# Altium schematic symbol library Schlib_V1.SchLib: 119 symbols (part 1 of 2)
Pins are listed as number, name and electrical type; pins without a type are passive.

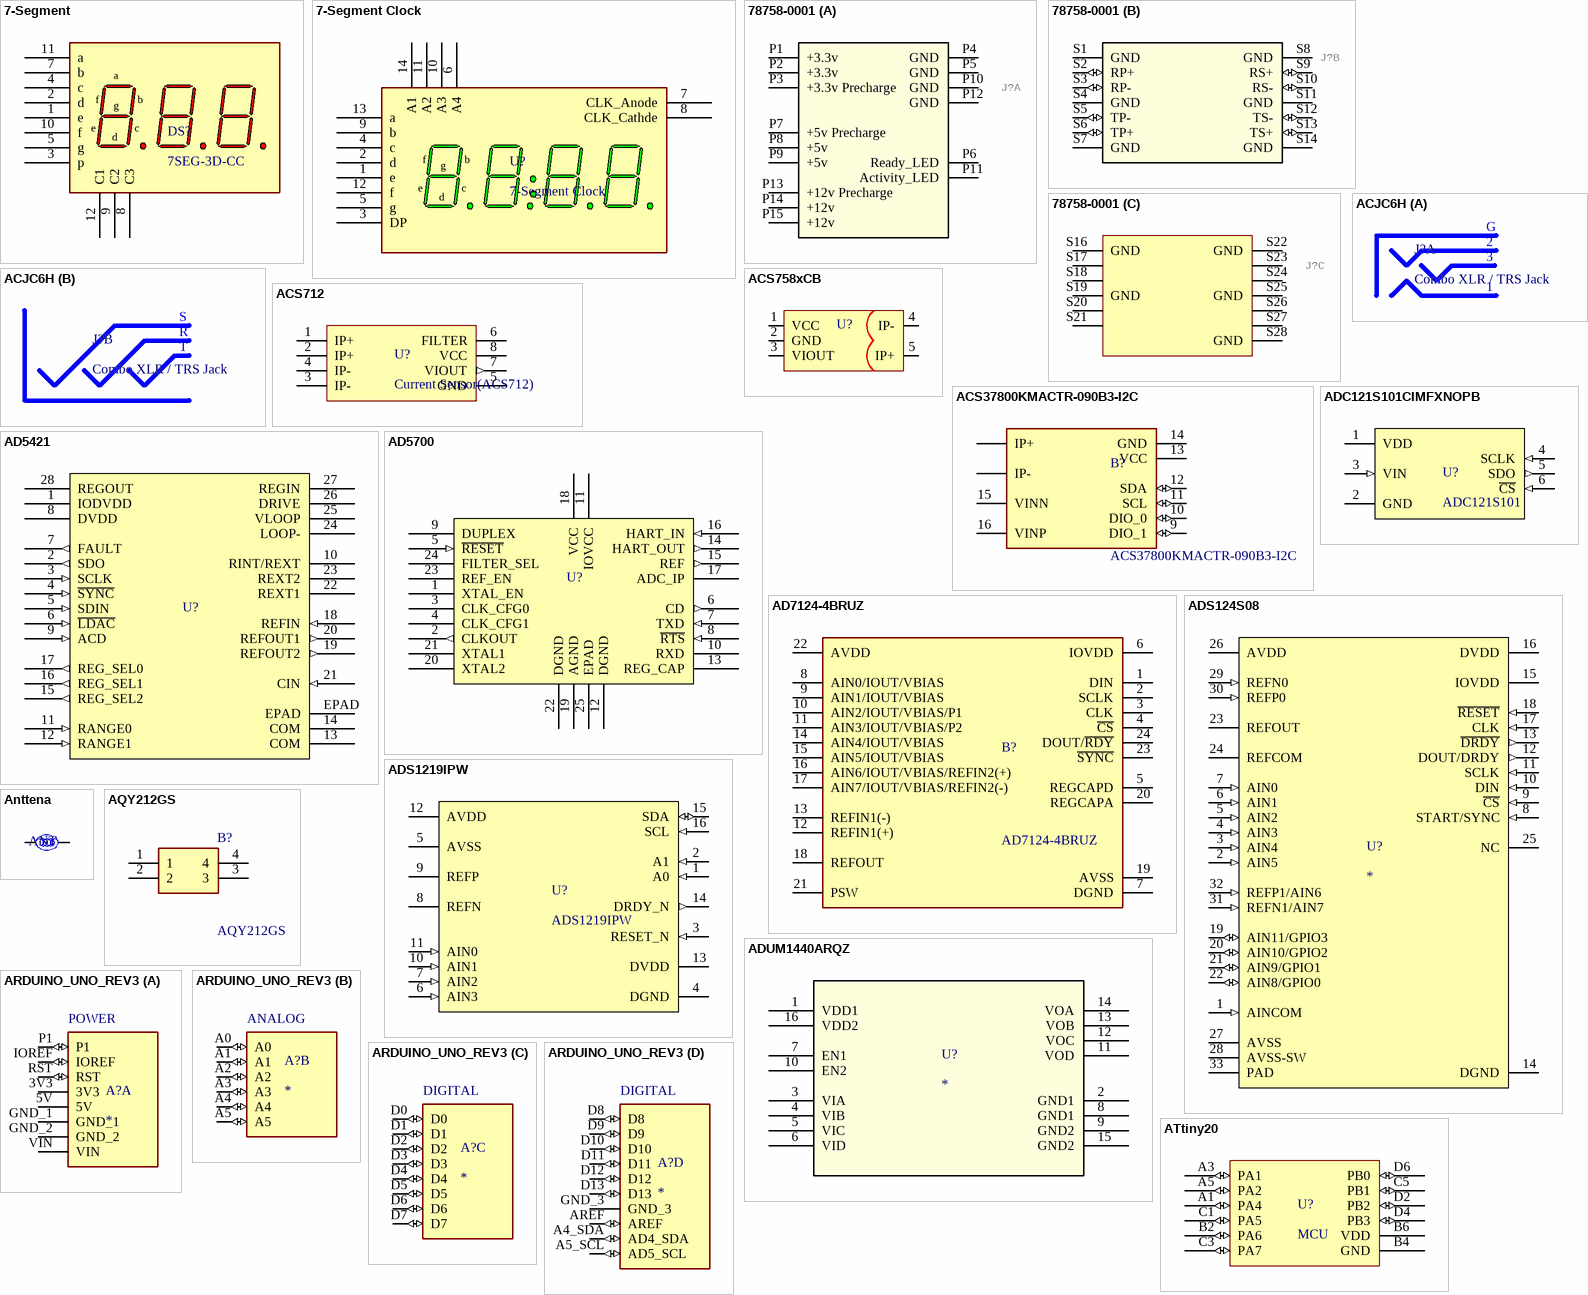
[diagram p0: symbols 7-Segment to ATtiny20]

## 7-Segment
designator DS?, comment 7SEG-3D-CC
7 Segment 3 Digit Common Cathode
footprint 7SEGX3_12_3016 (7SEG 3DIGIT 5631 1.3", 12pin Pitch: 2.54mm, 16X30.1mm)
pins: 1 e, 2 d, 3 p, 4 c, 5 g, 7 b, 8 C3, 9 C2, 10 f, 11 a, 12 C1

## 7-Segment Clock
designator U?
footprint SSCLOCK
pins: 1 e, 2 d, 3 DP, 4 c, 5 g, 6 A4, 7 CLK_Anode, 8 CLK_Cathde, 9 b, 10 A3, 11 A2, 12 f, 13 a, 14 A1

## 78758-0001
designator J?
I/O Connectors U.2 Plg 68Ckt VrtSMT w/Frt Sldr Tab w/Cap; Manufacturer_Name: Molex; GateName_1: G$1; SymbolName_1: 78758-0001; LibraryName: 78758-0001; DeviceSetName: 78758-0001; Package: 78758-0001; Mouser_Part_Number: 538-78758-0001; Mouser_Price-Stock: https://www.mouser.co.uk/ProductDetail/Molex/78758-0001?qs=wOSGPAwRNAFEK7d2ROR5rw%3D%3D; Manufacturer_Part_Number: 78758-0001; Height: mm
footprint 78758-0001
part A pins: P1 +3.3v, P2 +3.3v, P3 +3.3v Precharge, P4 GND, P5 GND, P6 Ready_LED, P7 +5v Precharge, P8 +5v, P9 +5v, P10 GND, P11 Activity_LED, P12 GND, P13 +12v Precharge, P14 +12v, P15 +12v
part B pins: S1 GND (power), S2 RP+ (io), S3 RP- (io), S4 GND (power), S5 TP- (io), S6 TP+ (io), S7 GND (power), S8 GND (power), S9 RS+ (io), S10 RS- (io), S11 GND (power), S12 TS- (io), S13 TS+ (io), S14 GND (power)
part C pins: S16 GND, S17, S18, S19 GND, S20, S21, S22 GND, S23, S24, S25 GND, S26, S27, S28 GND

## ACJC6H
designator J?, comment Combo XLR / TRS Jack
Standard or low profile / high density shell design / Two connectors in the one housing / Industry standard PCB footprint layout on standard C type. / Vertical or Horizontal PCB mounting / Bulk packed / Positive latch lock system (XLR)
footprint 55010428
part A pins: 1, 2, 3, G
part B pins: R, S, T

## ACS712
designator U?, comment Current Sensor(ACS712)
footprint SOIC8
pins: 1 IP+ (power), 2 IP+ (power), 3 IP- (power), 4 IP- (power), 5 GND (power), 6 FILTER, 7 VIOUT (out), 8 VCC (power)

## ACS758xCB
designator U?  (value not drawn)
Thermally Enhanced, Fully Integrated, Hall-Effect-Based / Linear Current Sensor IC with 100 µΩ Current Conductor
footprint ACCACS758
pins: 1 VCC (power), 2 GND (power), 3 VIOUT, 4 IP-, 5 IP+

## ACS37800KMACTR-090B3-I2C
designator B?
Isolated, Digital Output, Power Monitoring IC With Zero-Crossing Detection, Overcurrent And Overvoltage Flagging; Manufacturer_Name: Allegro Microsystems; Geometry.Height: 2.65mm; Manufacturer_Part_Number: ACS37800KMACTR-090B3-I2C; Mouser Part Number: 250-KMACTR-090B3-I2C; Mouser Price/Stock: https://www.mouser.co.uk/ProductDetail/Allegro-MicroSystems/ACS37800KMACTR-090B3-I2C?qs=e8oIoAS2J1R9LBXpQ1%252BpjQ%3D%3D; Arrow Part Number: ACS37800KMACTR-090B3-I2C; Arrow Price/Stock: https://www.arrow.com/en/products/acs37800kmactr-090b3-i2c/allegro-microsystems?region=nac; Datasheet Link: https://www.allegromicro.com/-/media/files/datasheets/acs37800-datasheet.ashx?sc_lang=en&hash=1C7B0351F268B7F35F9A980074E4AA64
footprint SOIC16
pins: 1 IP+, 2 IP+, 3 IP+, 4 IP+, 5 IP-, 6 IP-, 7 IP-, 8 IP-, 9 DIO_1 (io), 10 DIO_0 (io), 11 SCL (io), 12 SDA (io), 13 VCC (power), 14 GND (power), 15 VINN, 16 VINP

## AD5421
designator U?
16-Bit, Serial Input, Loop-Powered,4 mA to 20 mA DAC; Mfr_Name: Analog Devices Inc; RefDes: RefDes; Type: Type
footprint TSSOP28
pins: 1 IODVDD (power), 2 SDO (out), 3 SCLK (in), 4 ~{SYNC} (in), 5 SDIN (in), 6 ~{LDAC} (in), 7 FAULT (out), 8 DVDD (power), 9 ACD (in), 10 RINT/REXT, 11 RANGE0 (in), 12 RANGE1 (in), 13 COM, 14 COM, 15 REG_SEL2 (out), 16 REG_SEL1 (out), 17 REG_SEL0 (out), 18 REFIN (in), 19 REFOUT2 (out), 20 REFOUT1 (out), 21 CIN (in), 22 REXT1, 23 REXT2, 24 LOOP- (power), 25 VLOOP (power), 26 DRIVE (power), 27 REGIN (power), 28 REGOUT (power), EPAD

## AD5700
designator U?
Low Power HART Modem; Mfr_Name: Analog Devices Inc; RefDes: RefDes; Type: Type
footprint LFCSP-24 (Footprint not found)
pins: 1 XTAL_EN, 2 CLKOUT (out), 3 CLK_CFG0, 4 CLK_CFG1, 5 ~{RESET} (in), 6 CD (out), 7 TXD (in), 8 ~{RTS} (in), 9 DUPLEX, 10 RXD, 11 IOVCC (power), 12 DGND (power), 13 REG_CAP, 14 HART_OUT (out), 15 REF (out), 16 HART_IN (in), 17 ADC_IP, 18 VCC (power), 19 AGND (power), 20 XTAL2, 21 XTAL1, 22 DGND (power), 23 REF_EN, 24 FILTER_SEL, 25 EPAD

## AD7124-4BRUZ
designator B?
4-Channel, Low Noise, Low Power, 24-Bit, Sigma-Delta ADC with PGA and Reference; Manufacturer_Name: Analog Devices; Geometry.Height: 1.2mm; Mouser Part Number: 584-AD7124-4BRUZ; Mouser Price/Stock: https://www.mouser.co.uk/ProductDetail/Analog-Devices/AD7124-4BRUZ?qs=8Sj0zgMuDMVqCrsELALuFg%3D%3D; Manufacturer_Part_Number: AD7124-4BRUZ; Datasheet Link: http://www.analog.com/media/en/technical-documentation/data-sheets/AD7124-4.pdf
footprint TSSOP24
pins: 1 DIN, 2 SCLK, 3 CLK, 4 ~{CS}, 5 REGCAPD, 6 IOVDD, 7 DGND, 8 AIN0/IOUT/VBIAS, 9 AIN1/IOUT/VBIAS, 10 AIN2/IOUT/VBIAS/P1, 11 AIN3/IOUT/VBIAS/P2, 12 REFIN1(+), 13 REFIN1(-), 14 AIN4/IOUT/VBIAS, 15 AIN5/IOUT/VBIAS, 16 AIN6/IOUT/VBIAS/REFIN2(+), 17 AIN7/IOUT/VBIAS/REFIN2(-), 18 REFOUT, 19 AVSS, 20 REGCAPA, 21 PSW, 22 AVDD, 23 ~{SYNC}, 24 DOUT/~{RDY}

## ADC121S101CIMFXNOPB
designator U?, comment ADC121S101
ADC121S101x Single-Channel, 0.5 to 1-Msps, 12-Bit Analog-to-Digital Converter; Mfr_Name: Texas Instruments; TYPE: ADC
footprint SOT23-6
pins: 1 VDD (power), 2 GND (power), 3 VIN (in), 4 SCLK (in), 5 SDO (out), 6 ~{CS} (in)

## ADS124S08
designator U?
ADS124S0x Low-Power, Low-Noise, Highly Integrated, 6- and 12-Channel, / 4-kSPS, 24-Bit, Delta-Sigma ADC with PGA and Voltage Reference; Mfr_Name: Texas Instruments; RefDes: >Name; Type: >Value
footprint VQFN-32 (VQFN - 1 mm max height / PLASTIC QUAD FLATPACK-NO LEAD)
pins: 1 AINCOM (in), 2 AIN5 (in), 3 AIN4 (in), 4 AIN3 (in), 5 AIN2 (in), 6 AIN1 (in), 7 AIN0 (in), 8 START/SYNC (in), 9 ~{CS} (in), 10 DIN (in), 11 SCLK (in), 12 DOUT/DRDY (out), 13 ~{DRDY} (out), 14 DGND (power), 15 IOVDD (power), 16 DVDD (power), 17 CLK (in), 18 ~{RESET} (in), 19 AIN11/GPIO3 (io), 20 AIN10/GPIO2 (io), 21 AIN9/GPIO1 (io), 22 AIN8/GPIO0 (io), 23 REFOUT (power), 24 REFCOM (power), 25 NC, 26 AVDD (power), 27 AVSS (power), 28 AVSS-SW (power), 29 REFN0 (in), 30 REFP0 (in), 31 REFN1/AIN7 (in), 32 REFP1/AIN6 (in), 33 PAD (power)

## ADS1219IPW
designator U?
No Description Available; Mfr_Name: Texas Instruments; Type: DEV; RefDes: RefDes; Copyright: Copyright (C) 2023 Ultra Librarian. All rights reserved.; Manufacturer_Part_Number: ADS1219IPW
footprint TSSOP16
pins: 1 A0 (in), 2 A1 (in), 3 RESET_N (in), 4 DGND (power), 5 AVSS (power), 6 AIN3 (in), 7 AIN2 (in), 8 REFN (power), 9 REFP (power), 10 AIN1 (in), 11 AIN0 (in), 12 AVDD (power), 13 DVDD (power), 14 DRDY_N (out), 15 SDA (io), 16 SCL (in)

## ADUM1440ARQZ
designator U?
No Description Available; Mfr_Name: Analog Devices Inc; RefDes: RefDes; Type: Type
footprint RQ_16_ADI-M
pins: 1 VDD1, 2 GND1, 3 VIA, 4 VIB, 5 VIC, 6 VID, 7 EN1, 8 GND1, 9 GND2, 10 EN2, 11 VOD, 12 VOC, 13 VOB, 14 VOA, 15 GND2, 16 VDD2

## Anttena
designator ANT, comment 13.56MHz  (value not drawn)
footprint Antenna
pins: 1, 2

## AQY212GS
designator B?
Relay,SSR,Gen Purp,1A,60AC/DC,4 Pin Panasonic 1 A SPNO Solid State Relay, AC/DC, Surface Mount PhotoMOS, 60 V Maximum Load; Geometry.Height: 2.75mm; Mouser Part Number: 769-AQY212GS; Mouser Price/Stock: https://www.mouser.co.uk/ProductDetail/Panasonic-Industrial-Devices/AQY212GS?qs=mTeSeKeuVA6rDVFz7Vu6cQ%3D%3D; Manufacturer_Name: Panasonic; Manufacturer_Part_Number: AQY212GS; Datasheet Link: https://componentsearchengine.com/Datasheets/2/AQY212GS.pdf
footprint SOP4
pins: 1, 2, 3, 4

## ARDUINO_UNO_REV3
designator A?
Microcontroller board based on the ATmega328P.; MF: Arduino; MP: ARDUINO UNO REV3; SnapEDA_Link: https://www.snapeda.com/parts/ARDUINO%20UNO%20REV3/Arduino/view-part/?ref=snap; Package: Non-Standard Arduino; Value: *; Check_prices: https://www.snapeda.com/parts/ARDUINO%20UNO%20REV3/Arduino/view-part/?ref=eda
footprint ARDUINO_UNO
footprint ARDUINO_UNO_Flip
part A pins: 3V3 (power), 5V (power), GND_1 (power), GND_2 (power), IOREF (io), P1 (io), RST (io), VIN (power)
part B pins: A0 (io), A1 (io), A2 (io), A3 (io), A4 (io), A5 (io)
part C pins: D0 (io), D1 (io), D2 (io), D3 (io), D4 (io), D5 (io), D6 (io), D7 (io)
part D pins: A4_SDA AD4_SDA (io), A5_SCL AD5_SCL (io), AREF (io), D8 (io), D9 (io), D10 (io), D11 (io), D12 (io), D13 (io), GND_3 (power)
part A text: POWER
part B text: ANALOG
part C text: DIGITAL
part D text: DIGITAL

## ATtiny20
designator U?, comment MCU
8-bit AVR Microcontroller / with 2K Bytes In-System Programmable Flash
footprint wlcsp12 (12-ball 1.555*1.403mm Body, 0.538 mm think, 0.40 mm pitch (4*6 Stanggered Array) WLCSP)
pins: A1 PA4 (io), A3 PA1 (io), A5 PA2 (io), B2 PA6 (io), B4 GND (power), B6 VDD (power), C1 PA5 (io), C3 PA7 (io), C5 PB1 (io), D2 PB2 (io), D4 PB3 (io), D6 PB0 (io)

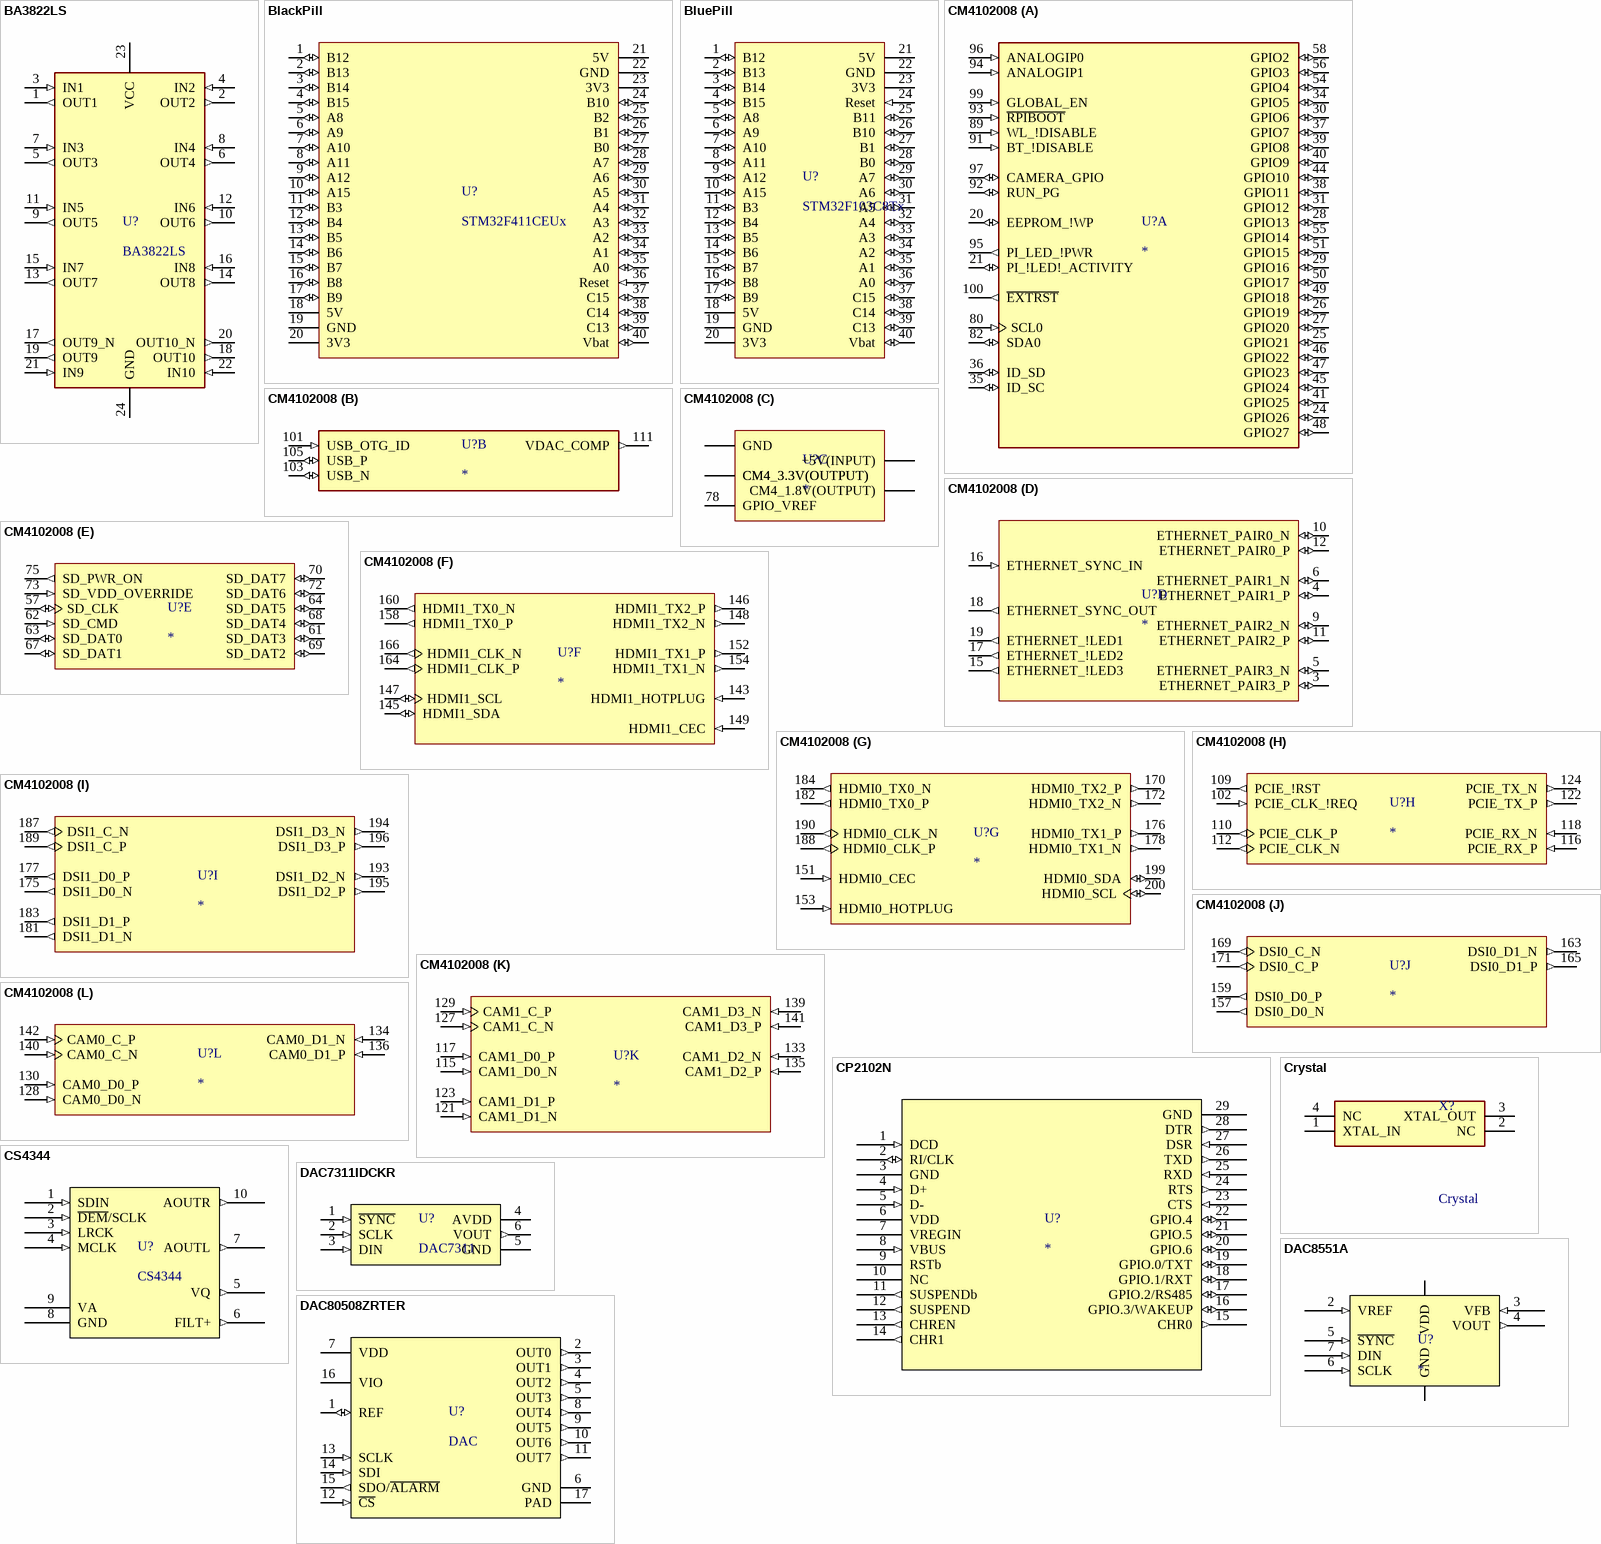
[diagram p1: symbols BA3822LS to DAC80508ZRTER]

## BA3822LS
designator U?
5-channel stereo graphic equalizer
footprint SOIC-24
pins: 1 OUT1 (out), 2 OUT2 (out), 3 IN1 (in), 4 IN2 (in), 5 OUT3 (out), 6 OUT4 (out), 7 IN3 (in), 8 IN4 (in), 9 OUT5 (out), 10 OUT6 (out), 11 IN5 (in), 12 IN6 (in), 13 OUT7 (out), 14 OUT8 (out), 15 IN7 (in), 16 IN8 (in), 17 OUT9_N (out), 18 OUT10 (out), 19 OUT9 (out), 20 OUT10_N (out), 21 IN9 (in), 22 IN10 (in), 23 VCC (power), 24 GND (power)

## BlackPill
designator U?, comment STM32F411CEUx
footprint BlackPill
pins: 1 B12 (io), 2 B13 (io), 3 B14 (io), 4 B15 (io), 5 A8 (io), 6 A9 (io), 7 A10 (io), 8 A11 (io), 9 A12 (io), 10 A15 (io), 11 B3 (io), 12 B4 (io), 13 B5 (io), 14 B6 (io), 15 B7 (io), 16 B8 (io), 17 B9 (io), 18 5V (power), 19 GND (power), 20 3V3 (power), 21 5V (power), 22 GND (power), 23 3V3 (power), 24 B10 (io), 25 B2 (io), 26 B1 (io), 27 B0 (io), 28 A7 (io), 29 A6 (io), 30 A5 (io), 31 A4 (io), 32 A3 (io), 33 A2 (io), 34 A1 (io), 35 A0 (io), 36 Reset (in), 37 C15 (io), 38 C14 (io), 39 C13 (io), 40 Vbat (io)

## BluePill
designator U?, comment STM32F103C8Tx
footprint Pill
pins: 1 B12 (io), 2 B13 (io), 3 B14 (io), 4 B15 (io), 5 A8 (io), 6 A9 (io), 7 A10 (io), 8 A11 (io), 9 A12 (io), 10 A15 (io), 11 B3 (io), 12 B4 (io), 13 B5 (io), 14 B6 (io), 15 B7 (io), 16 B8 (io), 17 B9 (io), 18 5V (power), 19 GND (power), 20 3V3 (power), 21 5V (power), 22 GND (power), 23 3V3 (power), 24 Reset (in), 25 B11 (io), 26 B10 (io), 27 B1 (io), 28 B0 (io), 29 A7 (io), 30 A6 (io), 31 A5 (io), 32 A4 (io), 33 A3 (io), 34 A2 (io), 35 A1 (io), 36 A0 (io), 37 C15 (io), 38 C14 (io), 39 C13 (io), 40 Vbat (io)

## CM4102008
designator U?
RPI MODULE 4, 2GB RAM, 8GB EMMC, WIFI; Silicon Manufacturer:Broadcom; Silicon Family Name:BCM2xxx; Core Architecture:ARM; Core Sub-Architecture:Cortex-A72; Silicon Core Number:BCM2711; Product Range:Compute Module 4 RoHS Compliant: Yes; MF: Raspberry Pi; MP: CM4102008; Value: *; Check_prices: https://www.snapeda.com/parts/CM4102008/Raspberry%20Pi/view-part/7386978/?ref=eda; Price: None; Package: None; Availability: Not in stock; SnapEDA_Link: https://www.snapeda.com/parts/CM4102008/Raspberry%20Pi/view-part/7386978/?ref=snap
footprint MODULE_CM4102008
part A pins: 20 EEPROM_!WP (io), 21 PI_!LED!_ACTIVITY (io), 24 GPIO26 (io), 25 GPIO21 (io), 26 GPIO19 (io), 27 GPIO20 (io), 28 GPIO13 (io), 29 GPIO16 (io), 30 GPIO6 (io), 31 GPIO12 (io), 34 GPIO5 (io), 35 ID_SC (io), 36 ID_SD (io), 37 GPIO7 (io), 38 GPIO11 (io), 39 GPIO8 (io), 40 GPIO9 (io), 41 GPIO25 (io), 44 GPIO10 (io), 45 GPIO24 (io), 46 GPIO22 (io), 47 GPIO23 (io), 48 GPIO27 (io), 49 GPIO18 (io), 50 GPIO17 (io), 51 GPIO15 (io), 54 GPIO4 (io), 55 GPIO14 (io), 56 GPIO3 (io), 58 GPIO2 (io), 80 SCL0 (in), 82 SDA0 (io), 89 WL_!DISABLE (in), 91 BT_!DISABLE (in), 92 RUN_PG (io), 93 ~{RPIBOOT} (in), 94 ANALOGIP1 (in), 95 PI_LED_!PWR (out), 96 ANALOGIP0 (in), 97 CAMERA_GPIO (io), 99 GLOBAL_EN (in), 100 ~{EXTRST} (out)
part B pins: 101 USB_OTG_ID (in), 103 USB_N (io), 105 USB_P (io), 111 VDAC_COMP (out)
part C pins: 1 GND (power), 2 GND (power), 7 GND (power), 8 GND (power), 13 GND (power), 14 GND (power), 22 GND (power), 23 GND (power), 32 GND (power), 33 GND (power), 42 GND (power), 43 GND (power), 52 GND (power), 53 GND (power), 59 GND (power), 60 GND (power), 65 GND (power), 66 GND (power), 71 GND (power), 74 GND (power), 77 +5V(INPUT) (power), 78 GPIO_VREF (power), 79 +5V(INPUT) (power), 81 +5V(INPUT) (power), 83 +5V(INPUT) (power), 84 CM4_3.3V(OUTPUT) (power), 85 +5V(INPUT) (power), 86 CM4_3.3V(OUTPUT) (power), 87 +5V(INPUT) (power), 88 CM4_1.8V(OUTPUT) (power), 90   (power), 98 GND (power), 107 GND (power), 108 GND (power), 113 GND (power), 114 GND (power), 119 GND (power), 120 GND (power), 125 GND (power), 126 GND (power), 131 GND (power), 132 GND (power), 137 GND (power), 138 GND (power), 144 GND (power), 150 GND (power), 155 GND (power), 156 GND (power), 161 GND (power), 162 GND (power), 167 GND (power), 168 GND (power), 173 GND (power), 174 GND (power), 179 GND (power), 180 GND (power), 185 GND (power), 186 GND (power), 191 GND (power), 192 GND (power), 197 GND (power), 198 GND (power)
part D pins: 3 ETHERNET_PAIR3_P (io), 4 ETHERNET_PAIR1_P (io), 5 ETHERNET_PAIR3_N (io), 6 ETHERNET_PAIR1_N (io), 9 ETHERNET_PAIR2_N (io), 10 ETHERNET_PAIR0_N (io), 11 ETHERNET_PAIR2_P (io), 12 ETHERNET_PAIR0_P (io), 15 ETHERNET_!LED3 (out), 16 ETHERNET_SYNC_IN (in), 17 ETHERNET_!LED2 (out), 18 ETHERNET_SYNC_OUT (out), 19 ETHERNET_!LED1 (out)
part E pins: 57 SD_CLK (io), 61 SD_DAT3 (io), 62 SD_CMD (in), 63 SD_DAT0 (io), 64 SD_DAT5 (io), 67 SD_DAT1 (io), 68 SD_DAT4 (io), 69 SD_DAT2 (io), 70 SD_DAT7 (io), 72 SD_DAT6 (io), 73 SD_VDD_OVERRIDE (in), 75 SD_PWR_ON (out)
part F pins: 143 HDMI1_HOTPLUG (in), 145 HDMI1_SDA (io), 146 HDMI1_TX2_P (out), 147 HDMI1_SCL (io), 148 HDMI1_TX2_N (out), 149 HDMI1_CEC (in), 152 HDMI1_TX1_P (out), 154 HDMI1_TX1_N (out), 158 HDMI1_TX0_P (out), 160 HDMI1_TX0_N (out), 164 HDMI1_CLK_P (out), 166 HDMI1_CLK_N (out)
part G pins: 151 HDMI0_CEC (in), 153 HDMI0_HOTPLUG (in), 170 HDMI0_TX2_P (out), 172 HDMI0_TX2_N (out), 176 HDMI0_TX1_P (out), 178 HDMI0_TX1_N (out), 182 HDMI0_TX0_P (out), 184 HDMI0_TX0_N (out), 188 HDMI0_CLK_P (out), 190 HDMI0_CLK_N (out), 199 HDMI0_SDA (io), 200 HDMI0_SCL (io)
part H pins: 102 PCIE_CLK_!REQ (in), 109 PCIE_!RST (out), 110 PCIE_CLK_P (out), 112 PCIE_CLK_N (out), 116 PCIE_RX_P (in), 118 PCIE_RX_N (in), 122 PCIE_TX_P (out), 124 PCIE_TX_N (out)
part I pins: 175 DSI1_D0_N (out), 177 DSI1_D0_P (out), 181 DSI1_D1_N (out), 183 DSI1_D1_P (out), 187 DSI1_C_N (out), 189 DSI1_C_P (out), 193 DSI1_D2_N (out), 194 DSI1_D3_N (out), 195 DSI1_D2_P (out), 196 DSI1_D3_P (out)
part J pins: 157 DSI0_D0_N (out), 159 DSI0_D0_P (out), 163 DSI0_D1_N (out), 165 DSI0_D1_P (out), 169 DSI0_C_N (out), 171 DSI0_C_P (out)
part K pins: 115 CAM1_D0_N (in), 117 CAM1_D0_P (in), 121 CAM1_D1_N (in), 123 CAM1_D1_P (in), 127 CAM1_C_N (in), 129 CAM1_C_P (in), 133 CAM1_D2_N (in), 135 CAM1_D2_P (in), 139 CAM1_D3_N (in), 141 CAM1_D3_P (in)
part L pins: 128 CAM0_D0_N (in), 130 CAM0_D0_P (in), 134 CAM0_D1_N (in), 136 CAM0_D1_P (in), 140 CAM0_C_N (in), 142 CAM0_C_P (in)

## CP2102N
designator U?
No Description Available; Mfr_Name: Silicon Labs; RefDes: RefDes; Type: Type
footprint QFN28_5X5 (Footprint not found)
pins: 1 DCD (in), 2 RI/CLK (io), 3 GND (power), 4 D+ (in), 5 D- (in), 6 VDD (power), 7 VREGIN (power), 8 VBUS (in), 9 RSTb, 10 NC, 11 SUSPENDb (out), 12 SUSPEND (out), 13 CHREN (out), 14 CHR1 (out), 15 CHR0 (out), 16 GPIO.3/WAKEUP (io), 17 GPIO.2/RS485 (io), 18 GPIO.1/RXT (io), 19 GPIO.0/TXT (io), 20 GPIO.6 (io), 21 GPIO.5 (io), 22 GPIO.4 (io), 23 CTS (in), 24 RTS (out), 25 RXD (in), 26 TXD (out), 27 DSR (in), 28 DTR (out), 29 GND (power)

## Crystal
designator X?
Crystal 40MHz +/-45ppm (Tol) +/-40ppm (Stability) 10pF 100Ohm 4-Pin SMD T/R; Manufacturer_Name: Murata Electronics; Manufacturer_Part_Number: XRCGB40M000F4M02R0; Geometry.Height: 0.7mm; Mouser Part Number: 81-XRCGB40M000F4M02R; Mouser Price/Stock: https://www.mouser.co.uk/ProductDetail/Murata-Electronics/XRCGB40M000F4M02R0?qs=rrS6PyfT74fAOGFgWWmGFg%3D%3D; Datasheet Link: https://www.murata.com/products/productdata/8801080279070/SPEC-XRCGB40M000F4M02R0.pdf?1517925609000
footprint HCR2016
pins: 1 XTAL_IN, 2 NC, 3 XTAL_OUT, 4 NC

## CS4344
designator U?
10-Pin, 24-Bit, 192 kHz Stereo D/A Converter; Mfr_Name: Cirrus Logic; RefDes: RefDes; Type: Type
footprint TSSOP-10
pins: 1 SDIN (in), 2 ~{DEM}/SCLK (in), 3 LRCK (in), 4 MCLK (in), 5 VQ (out), 6 FILT+ (out), 7 AOUTL (out), 8 GND (power), 9 VA (power), 10 AOUTR (out)

## DAC7311IDCKR
designator U?, comment DAC7311
DACx311 2-V to 5.5-V, 80-μA, 8-Bit, 10-Bit, and 12-Bit, Low-Power, Single-Channel, / Digital-to-Analog Converters in SC70 Package; Mfr_Name: Texas Instruments; RefDes: RefDes; Type: Type
footprint SC70
pins: 1 ~{SYNC} (in), 2 SCLK (in), 3 DIN (in), 4 AVDD (power), 5 GND (power), 6 VOUT (out)

## DAC8551A
designator U?
DAC8551 16-Bit, Ultralow-Glitch, Voltage-Output Digital‑to‑Analog Converter; Mfr_Name: Texas Instruments; RefDes: RefDes; Type: Type
footprint VSSOP-8
pins: 1 VDD (power), 2 VREF (in), 3 VFB (in), 4 VOUT (out), 5 ~{SYNC} (in), 6 SCLK (in), 7 DIN (in), 8 GND (power)

## DAC80508ZRTER
designator U?, comment DAC
DACx0508 Octal, 16-, 14-, 12-Bit, SPI, Voltage Output DAC with Internal Reference; Mfr_Name: Texas Instruments; TYPE: TYPE; RefDes: RefDes
footprint WQFN-16 (WQFN - 0.8 mm max height / PLASTIC QUAD FLATPACK - NO LEAD)
pins: 1 REF (io), 2 OUT0 (out), 3 OUT1 (out), 4 OUT2 (out), 5 OUT3 (out), 6 GND (power), 7 VDD (power), 8 OUT4 (out), 9 OUT5 (out), 10 OUT6 (out), 11 OUT7 (out), 12 ~{CS} (in), 13 SCLK (in), 14 SDI (in), 15 SDO/~{ALARM} (out), 16 VIO (power), 17 PAD (power)

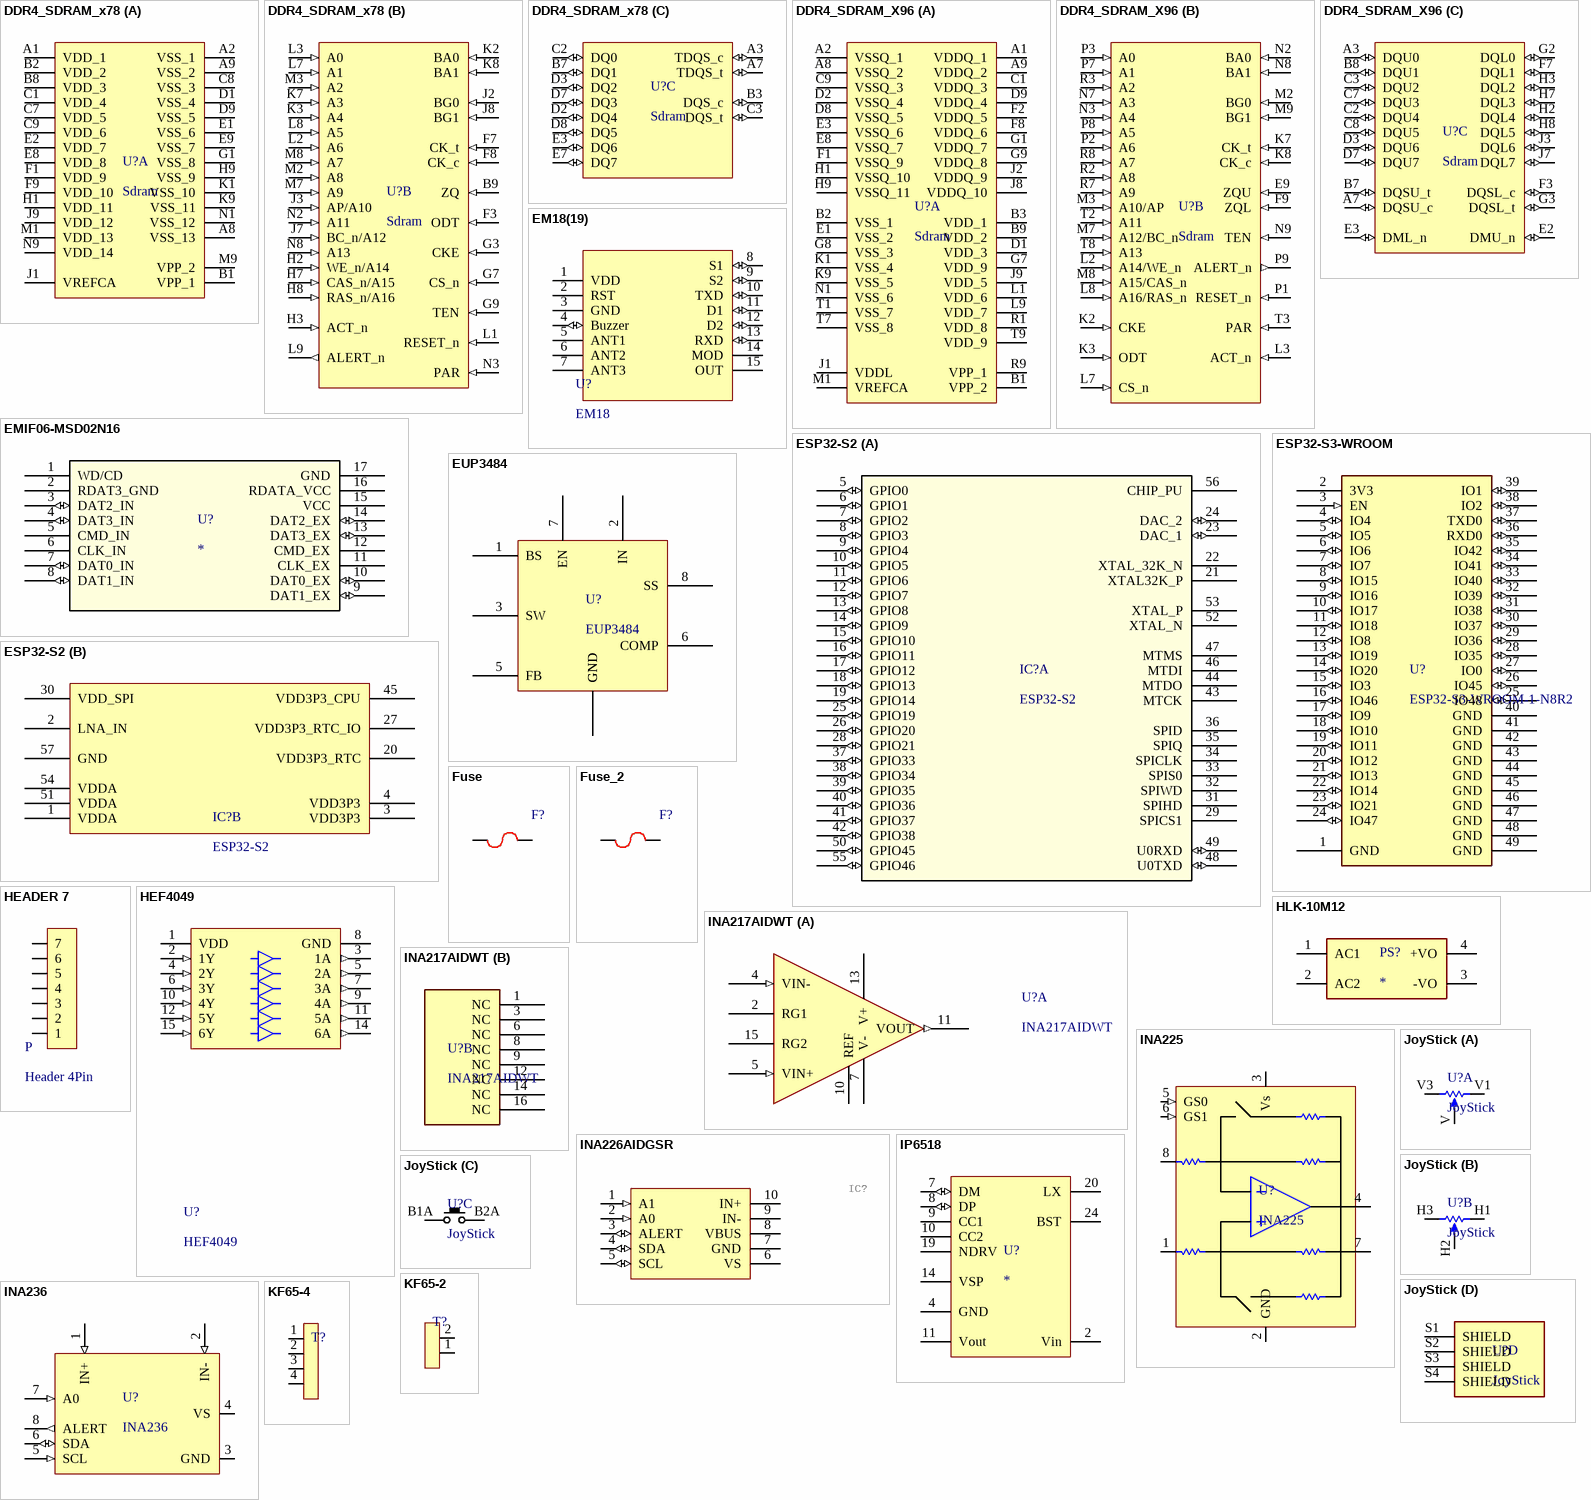
[diagram p2: symbols DDR4_SDRAM_x78 to KF65-4]

## DDR4_SDRAM_x78
designator U?, comment Sdram
8Gb DDR4 SDRAM / Lead-Free&Halogen-Free / (RoHS Compliant)
footprint FBGA78 (BGA, 78-Leads, Body 7.50x11.00mmx1.10mm, Pitch 0.80mm)
part A pins: A1 VDD_1 (power), A2 VSS_1 (power), A8 VSS_13 (power), A9 VSS_2 (power), B1 VPP_1 (power), B2 VDD_2 (power), B8 VDD_3 (power), C1 VDD_4 (power), C7 VDD_5 (power), C8 VSS_3 (power), C9 VDD_6 (power), D1 VSS_4 (power), D9 VSS_5 (power), E1 VSS_6 (power), E2 VDD_7 (power), E8 VDD_8 (power), E9 VSS_7 (power), F1 VDD_9 (power), F9 VDD_10 (power), G1 VSS_8 (power), H1 VDD_11 (power), H9 VSS_9 (power), J1 VREFCA (power), J9 VDD_12 (power), K1 VSS_10 (power), K9 VSS_11 (power), M1 VDD_13 (power), M9 VPP_2 (power), N1 VSS_12 (power), N9 VDD_14 (power)
part B pins: B9 ZQ (in), F3 ODT (in), F7 CK_t (in), F8 CK_c (in), G3 CKE (in), G7 CS_n (in), G9 TEN (in), H2 WE_n/A14 (in), H3 ACT_n (in), H7 CAS_n/A15 (in), H8 RAS_n/A16 (in), J2 BG0 (in), J3 AP/A10 (in), J7 BC_n/A12 (in), J8 BG1 (in), K2 BA0 (in), K3 A4 (in), K7 A3 (in), K8 BA1 (in), L1 RESET_n (in), L2 A6 (in), L3 A0 (in), L7 A1 (in), L8 A5 (in), L9 ALERT_n (out), M2 A8 (in), M3 A2 (in), M7 A9 (in), M8 A7 (in), N2 A11 (in), N3 PAR (in), N8 A13 (in)
part C pins: A3 TDQS_c (io), A7 TDQS_t (io), B3 DQS_c (io), B7 DQ1 (io), C2 DQ0 (io), C3 DQS_t (io), D2 DQ4 (io), D3 DQ2 (io), D7 DQ3 (io), D8 DQ5 (io), E3 DQ6 (io), E7 DQ7 (io)

## DDR4_SDRAM_X96
designator U?, comment Sdram
DDR4 SDRAM / Lead-Free&Halogen-Free / (RoHS Compliant)
footprint FBGA96 (BGA, 96-Leads, Body 10.50x13.00mmx1.10mm, Pitch 0.80mm)
part A pins: A1 VDDQ_1 (power), A2 VSSQ_1 (power), A8 VSSQ_2 (power), A9 VDDQ_2 (power), B1 VPP_2 (power), B2 VSS_1 (power), B3 VDD_1 (power), B9 VDD_2 (power), C1 VDDQ_3 (power), C9 VSSQ_3 (power), D1 VDD_3 (power), D2 VSSQ_4 (power), D8 VSSQ_5 (power), D9 VDDQ_4 (power), E1 VSS_2 (power), E3 VSSQ_6 (power), E8 VSSQ_7 (power), F1 VSSQ_9 (power), F2 VDDQ_5 (power), F8 VDDQ_6 (power), G1 VDDQ_7 (power), G7 VDD_9 (power), G8 VSS_3 (power), G9 VDDQ_8 (power), H1 VSSQ_10 (power), H9 VSSQ_11 (power), J1 VDDL (power), J2 VDDQ_9 (power), J8 VDDQ_10 (power), J9 VDD_5 (power), K1 VSS_4 (power), K9 VSS_5 (power), L1 VDD_6 (power), L9 VDD_7 (power), M1 VREFCA (power), N1 VSS_6 (power), R1 VDD_8 (power), R9 VPP_1 (power), T1 VSS_7 (power), T7 VSS_8 (power), T9 VDD_9 (power)
part B pins: E9 ZQU (in), F9 ZQL (in), K2 CKE (in), K3 ODT (in), K7 CK_t (in), K8 CK_c (in), L2 A14/WE_n (in), L3 ACT_n (in), L7 CS_n (in), L8 A16/RAS_n (in), M2 BG0 (in), M3 A10/AP (in), M7 A12/BC_n (in), M8 A15/CAS_n (in), M9 BG1 (in), N2 BA0 (in), N3 A4 (in), N7 A3 (in), N8 BA1 (in), N9 TEN (in), P1 RESET_n (in), P2 A6 (in), P3 A0 (in), P7 A1 (in), P8 A5 (in), P9 ALERT_n (out), R2 A8 (in), R3 A2 (in), R7 A9 (in), R8 A7 (in), T2 A11 (in), T3 PAR (in), T8 A13 (in)
part C pins: A3 DQU0 (io), A7 DQSU_c (io), B7 DQSU_t (io), B8 DQU1 (io), C2 DQU4 (io), C3 DQU2 (io), C7 DQU3 (io), C8 DQU5 (io), D3 DQU6 (io), D7 DQU7 (io), E2 DMU_n (io), E3 DML_n (io), F3 DQSL_c (io), F7 DQL1 (io), G2 DQL0 (io), G3 DQSL_t (io), H2 DQL4 (io), H3 DQL2 (io), H7 DQL3 (io), H8 DQL5 (io), J3 DQL6 (io), J7 DQL7 (io)

## EM18(19)
designator U?, comment EM18
footprint EM18 (RFID reader)
pins: 1 VDD (power), 2 RST, 3 GND (power), 4 Buzzer (io), 5 ANT1, 6 ANT2, 7 ANT3, 8 S1 (io), 9 S2 (io), 10 TXD (io), 11 D1 (io), 12 D2 (io), 13 RXD (io), 14 MOD, 15 OUT

## EMIF06-MSD02N16
designator U?
No Description Available; Mfr_Name: STMicroelectronics; RefDes: RefDes; Type: Type
footprint MICROQFN16_1P25X3P55X0P4_STM
pins: 1 WD/CD, 2 RDAT3_GND (power), 3 DAT2_IN (io), 4 DAT3_IN (io), 5 CMD_IN, 6 CLK_IN, 7 DAT0_IN (io), 8 DAT1_IN (io), 9 DAT1_EX (io), 10 DAT0_EX (io), 11 CLK_EX, 12 CMD_EX, 13 DAT3_EX (io), 14 DAT2_EX (io), 15 VCC (power), 16 RDATA_VCC, 17 GND (power)

## ESP32-S2
designator IC?
No Description Available; Mfr_Name: Espressif Systems; Copyright: Copyright (C) 2023 Ultra Librarian. All rights reserved.; Manufacturer_Part_Number: ESP32-S2; RefDes: RefDes; Type: DEV
footprint QFN56 (Footprint not found)
part A pins: 5 GPIO0 (io), 6 GPIO1 (io), 7 GPIO2 (io), 8 GPIO3 (io), 9 GPIO4 (io), 10 GPIO5 (io), 11 GPIO6 (io), 12 GPIO7 (io), 13 GPIO8 (io), 14 GPIO9 (io), 15 GPIO10 (io), 16 GPIO11 (io), 17 GPIO12 (io), 18 GPIO13 (io), 19 GPIO14 (io), 21 XTAL32K_P, 22 XTAL_32K_N, 23 DAC_1 (io), 24 DAC_2 (io), 25 GPIO19 (io), 26 GPIO20 (io), 28 GPIO21 (io), 29 SPICS1, 31 SPIHD, 32 SPIWD, 33 SPIS0, 34 SPICLK, 35 SPIQ, 36 SPID, 37 GPIO33 (io), 38 GPIO34 (io), 39 GPIO35 (io), 40 GPIO36 (io), 41 GPIO37 (io), 42 GPIO38 (io), 43 MTCK, 44 MTDO, 46 MTDI, 47 MTMS, 48 U0TXD (io), 49 U0RXD (io), 50 GPIO45 (io), 52 XTAL_N, 53 XTAL_P, 55 GPIO46 (io), 56 CHIP_PU
part B pins: 1 VDDA (power), 2 LNA_IN, 3 VDD3P3 (power), 4 VDD3P3 (power), 20 VDD3P3_RTC (power), 27 VDD3P3_RTC_IO (power), 30 VDD_SPI (power), 45 VDD3P3_CPU (power), 51 VDDA (power), 54 VDDA (power), 57 GND (power)

## ESP32-S3-WROOM
designator U?, comment ESP32-S3-WROOM-1-N8R2
Description; Manufacturer_Name: Espressif Systems; Copyright: Copyright (C) 2026 Ultra Librarian. All rights reserved.; Manufacturer_Part_Number: ESP32-S3-WROOM-1-N8R2; RefDes: RefDes; Type: Type
footprint ESP32-S3-WROOM
pins: 1 GND (power), 2 3V3 (power), 3 EN (in), 4 IO4 (io), 5 IO5 (io), 6 IO6 (io), 7 IO7 (io), 8 IO15 (io), 9 IO16 (io), 10 IO17 (io), 11 IO18 (io), 12 IO8 (io), 13 IO19 (io), 14 IO20 (io), 15 IO3 (io), 16 IO46 (io), 17 IO9 (io), 18 IO10 (io), 19 IO11 (io), 20 IO12 (io), 21 IO13 (io), 22 IO14 (io), 23 IO21 (io), 24 IO47 (io), 25 IO48 (io), 26 IO45 (io), 27 IO0 (io), 28 IO35 (io), 29 IO36 (io), 30 IO37 (io), 31 IO38 (io), 32 IO39 (io), 33 IO40 (io), 34 IO41 (io), 35 IO42 (io), 36 RXD0 (io), 37 TXD0 (io), 38 IO2 (io), 39 IO1 (io), 40 GND (power), 41 GND (power), 42 GND (power), 43 GND (power), 44 GND (power), 45 GND (power), 46 GND (power), 47 GND (power), 48 GND (power), 49 GND (power)

## EUP3484
designator U?
2A, 30V, 340KHz Synchronous / Step-Down Converter
footprint SOP8
pins: 1 BS, 2 IN, 3 SW, 4 GND, 5 FB, 6 COMP, 7 EN, 8 SS, EP GND

## Fuse
designator F?
Molded Base PC Mount Fuse Block For 520mm Fuses; Manufacturer_Name: LITTELFUSE; Manufacturer_Part_Number: 65600001009; Geometry.Height: 12mm; Mouser Part Number: 576-65600001009; Mouser Price/Stock: https://www.mouser.co.uk/ProductDetail/Littelfuse/65600001009?qs=jPWcQx%2F5bayV8exo4hnGjg%3D%3D; Arrow Part Number: 65600001009; Arrow Price/Stock: https://www.arrow.com/en/products/65600001009/littelfuse?region=europe; Datasheet Link: https://www.littelfuse.com/media?resourcetype=datasheets&itemid=7143dbe7-66cc-46d0-a668-04c7d18969fc&filename=littelfuse-fuse-block-656-datasheet
footprint Fuse_Holder
pins: 1, 2

## Fuse_2
designator F?
Molded Base PC Mount Fuse Block For 520mm Fuses; Manufacturer_Name: LITTELFUSE; Manufacturer_Part_Number: 65600001009; Geometry.Height: 12mm; Mouser Part Number: 576-65600001009; Mouser Price/Stock: https://www.mouser.co.uk/ProductDetail/Littelfuse/65600001009?qs=jPWcQx%2F5bayV8exo4hnGjg%3D%3D; Arrow Part Number: 65600001009; Arrow Price/Stock: https://www.arrow.com/en/products/65600001009/littelfuse?region=europe; Datasheet Link: https://www.littelfuse.com/media?resourcetype=datasheets&itemid=7143dbe7-66cc-46d0-a668-04c7d18969fc&filename=littelfuse-fuse-block-656-datasheet
footprint Fuse_Holder
pins: 1, 2

## HEADER 7
designator P, comment Header 4Pin
Header / 4 Pin
footprint HDR 1×4
pins: 1, 2, 3, 4, 5, 6, 7

## HEF4049
designator U?
Hex inverting buffers
footprint SO16
pins: 1 VDD (power), 2 1Y (in), 3 1A (out), 4 2Y (in), 5 2A (out), 6 3Y (in), 7 3A (out), 8 GND (power), 9 4A (out), 10 4Y (in), 11 5A (out), 12 5Y (in), 14 6A (out), 15 6Y (in)

## HLK-10M12
designator PS?
10W Ultra-Compact Power Module; MF: Hi-link; MP: HLK-10M12; SnapEDA_Link: https://www.snapeda.com/parts/HLK-10M12/Hi-link/view-part/?ref=snap; Package: Package; Value: *; Check_prices: https://www.snapeda.com/parts/HLK-10M12/Hi-link/view-part/?ref=eda
footprint CONV_HLK-10M12
pins: 1 AC1 (power), 2 AC2 (power), 3 -VO (power), 4 +VO (power)

## INA217AIDWT
designator U?
Low Noise, Low-Distortion Instrumentation Amplifier Replacement for SSM2017 16-SOIC -40 to 125; Manufacturer_Name: Texas Instruments; Copyright: Copyright (C) 2026 Ultra Librarian. All rights reserved.; Manufacturer_Part_Number: INA217AIDWT; Datasheet: https://www.ti.com/lit/gpn/ina217; RefDes: RefDes; Type: Type
footprint SOIC16
part A pins: 2 RG1, 4 VIN- (in), 5 VIN+ (in), 7 V- (power), 10 REF (power), 11 VOUT (out), 13 V+ (power), 15 RG2
part B pins: 1 NC, 3 NC, 6 NC, 8 NC, 9 NC, 12 NC, 14 NC, 16 NC

## INA225
designator U?
INA225 36-V, Programmable-Gain, Voltage-Output, Bidirectional, Zero-Drift Series, / Current-Shunt Monitor
footprint VSSOP-8
pins: 1 in+, 2 GND (power), 3 Vs (power), 4 OUT, 5 GS0 (in), 6 GS1 (in), 7 REF (power), 8 in-

## INA226AIDGSR
designator IC?  (value not drawn)
36-V, Bi-Directional, Ultra-High Accuracy, Low-/High-Side, I2C Out Current/Power Monitor w/ Alert; Manufacturer_Name: Texas Instruments; GateName_1: G$1; SymbolName_1: INA226AIDGSR; LibraryName: INA226AIDGSR; DeviceSetName: INA226AIDGSR; Package: SOP50P490X110-10N; Mouser_Part_Number: 595-INA226AIDGSR; Mouser_Price-Stock: https://www.mouser.co.uk/ProductDetail/Texas-Instruments/INA226AIDGSR?qs=tQG3bEuiOZD4quG3egR36g%3D%3D; Manufacturer_Part_Number: INA226AIDGSR; Height: 1.1mm; Supplier 1: Mouser; Supplier Part Number 1: 595-INA226AIDGSR
footprint VSSOP-10
pins: 1 A1 (in), 2 A0 (in), 3 ALERT (io), 4 SDA (io), 5 SCL (io), 6 VS (power), 7 GND (power), 8 VBUS, 9 IN-, 10 IN+

## INA236
designator U?
48-V, 16-Bit, Ultra-Precise, Current, Voltage, and Power Monitor With an I2C / Interface
footprint SOT23-8
pins: 1 IN+ (in), 2 IN- (in), 3 GND (power), 4 VS (power), 5 SCL (in), 6 SDA (io), 7 A0 (in), 8 ALERT (out)

## IP6518
designator U?
SOC Output 45W Power with Type-C PD and Several Fast Charge / Output Standard
footprint QFN24 (4X4)
pins: 2 Vin (power), 3 Vin (power), 4 GND (power), 7 DM (io), 8 DP (io), 9 CC1, 10 CC2, 11 Vout, 14 VSP, 15 AGND (power), 16 VIN (power), 17 VIN (power), 18 VIN (power), 19 NDRV (power), 20 LX (power), 21 LX (power), 22 LX (power), 23 LX (power), 24 BST (power), 25 GND (power)

## JoyStick
designator U?
Thumb Joystick; MP: COM-09032; Price: None; Availability: Unavailable; Value: *; Package: None
footprint XDCR_COM-09032
part A pins: V TAP, V1 V+, V3 TOP
part B pins: H1 H+, H2 H, H3 H-
part C pins: B1A SEL+, B2A SEL-
part D pins: S1 SHIELD, S2 SHIELD, S3 SHIELD, S4 SHIELD

## KF65-2
designator T?
Barrier Block-15A-300V- / 14-22 AWG
footprint KF65-2 (Footprint not found)
pins: 1, 2

## KF65-4
designator T?
Barrier Block-15A-300V- / 14-22 AWG
footprint KF65-4 (Footprint not found)
pins: 1, 2, 3, 4

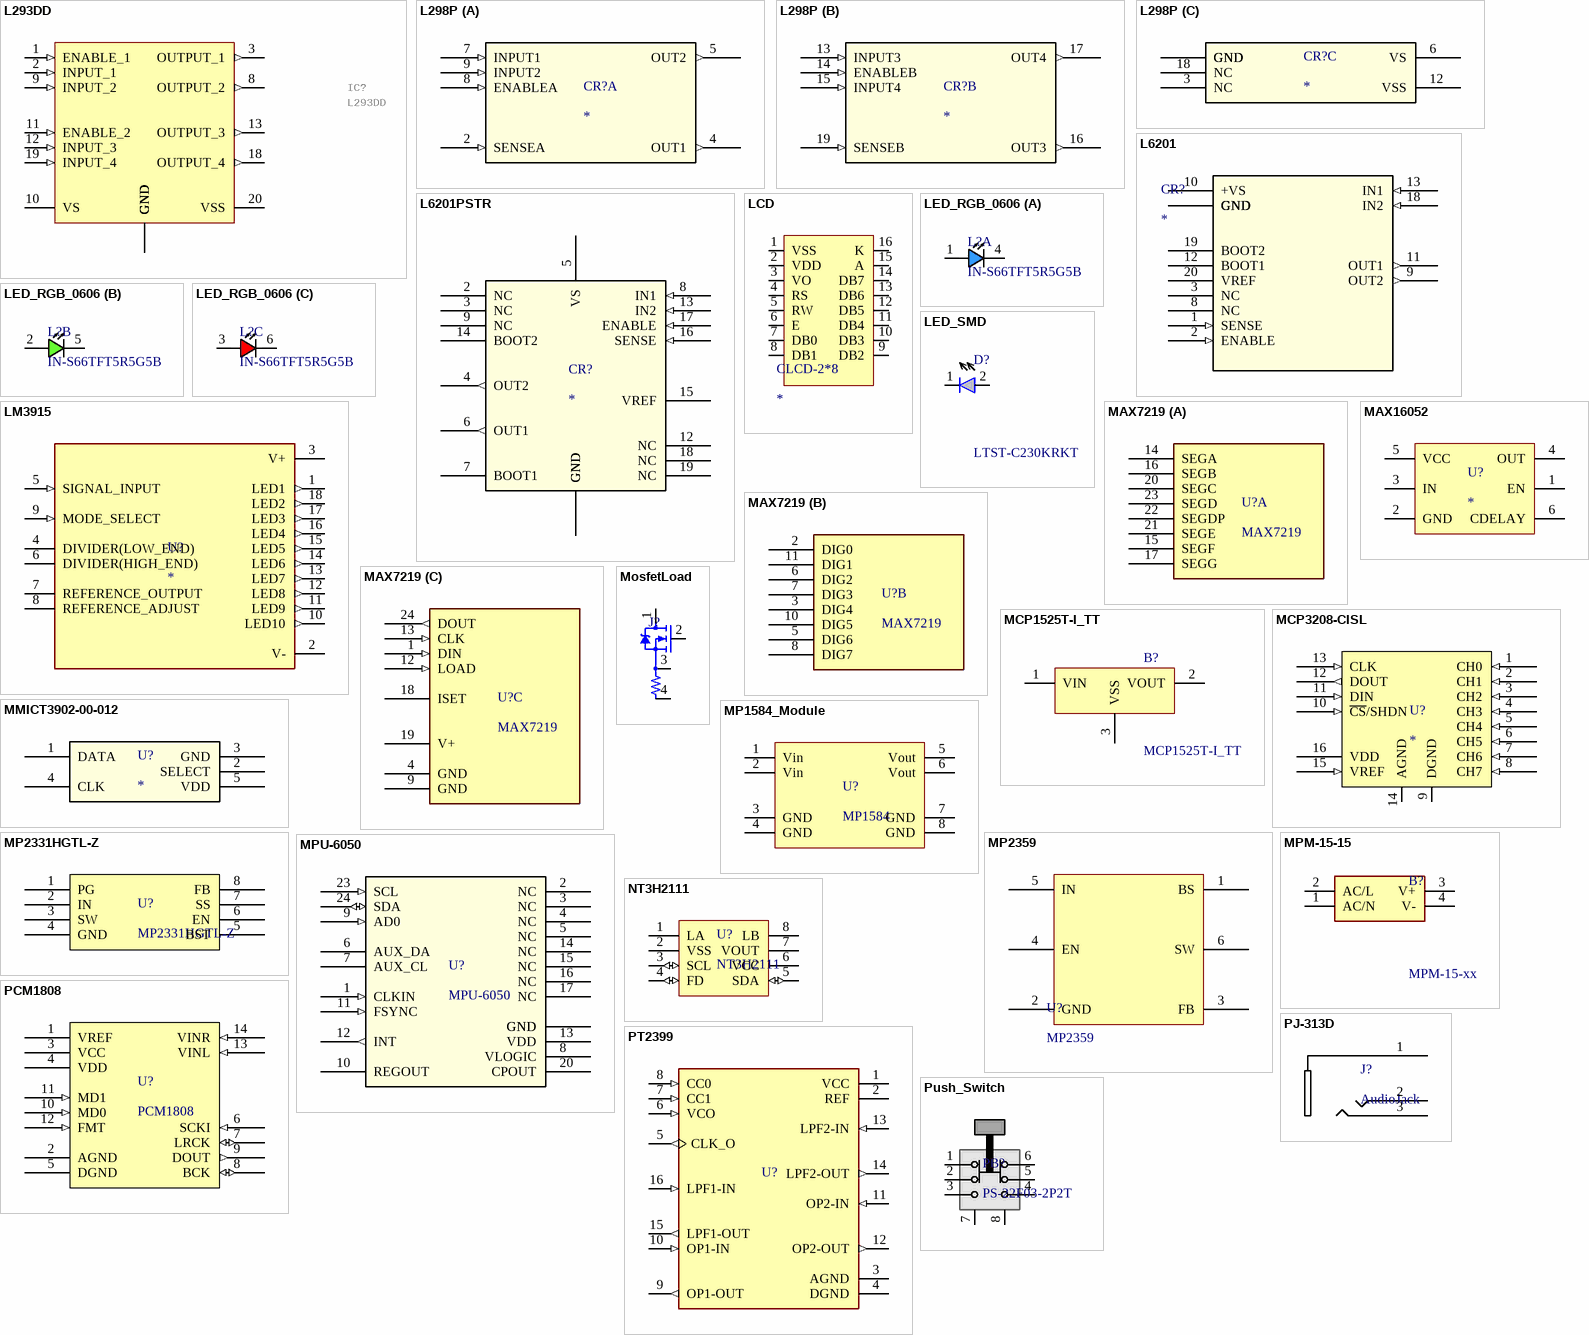
[diagram p3: symbols L293DD to Push_Switch]

## L293DD
designator IC?
Motor Driver, 4.5  36 V, 20-Pin SOIC; Manufacturer_Name: STMicroelectronics; GateName_1: G$1; SymbolName_1: L293DD; LibraryName: L293DD; DeviceSetName: L293DD; Package: SOIC127P1032X265-20N; Manufacturer_Part_Number: L293DD; Mouser_Part_Number: 511-L293DD; Mouser_Price-Stock: https://www.mouser.co.uk/ProductDetail/STMicroelectronics/L293DD?qs=m4gxtLzGBzoksItTiSkcgg%3D%3D; Arrow_Part_Number: L293DD; Arrow_Price-Stock: https://www.arrow.com/en/products/l293dd/stmicroelectronics?region=europe; Height: 2.65mm
footprint SOIC12
pins: 1 ENABLE_1 (in), 2 INPUT_1 (in), 3 OUTPUT_1 (out), 4 GND (power), 5 GND (power), 6 GND (power), 7 GND (power), 8 OUTPUT_2 (out), 9 INPUT_2 (in), 10 VS (power), 11 ENABLE_2 (in), 12 INPUT_3 (in), 13 OUTPUT_3 (out), 14 GND (power), 15 GND (power), 16 GND (power), 17 GND (power), 18 OUTPUT_4 (out), 19 INPUT_4 (in), 20 VSS (power)

## L298P
designator CR?
No Description Available; Mfr_Name: STMicroelectronics; RefDes: RefDes; Type: Type
footprint PowerSO-20_STM-M
part A pins: 2 SENSEA (in), 4 OUT1 (out), 5 OUT2 (out), 7 INPUT1 (in), 8 ENABLEA (in), 9 INPUT2 (in)
part B pins: 13 INPUT3 (in), 14 ENABLEB (in), 15 INPUT4 (in), 16 OUT3 (out), 17 OUT4 (out), 19 SENSEB (in)
part C pins: 1 GND (power), 3 NC, 6 VS (power), 10 GND (power), 11 GND (power), 12 VSS (power), 18 NC, 20 GND (power)

## L6201
designator CR?
No Description Available; Mfr_Name: STMicroelectronics; RefDes: RefDes; Type: Type
footprint SO-20_STM-M
pins: 1 SENSE (in), 2 ENABLE (in), 3 NC, 4 GND (power), 5 GND (power), 6 GND (power), 7 GND (power), 8 NC, 9 OUT2 (out), 10 +VS (power), 11 OUT1 (out), 12 BOOT1, 13 IN1 (in), 14 GND (power), 15 GND (power), 16 GND (power), 17 GND (power), 18 IN2 (in), 19 BOOT2, 20 VREF (power)

## L6201PSTR
designator CR?
No Description Available; Mfr_Name: STMicroelectronics; RefDes: RefDes; Type: Type
footprint PowerSO-20_STM-M
pins: 1 GND (power), 2 NC, 3 NC, 4 OUT2 (out), 5 VS (power), 6 OUT1 (out), 7 BOOT1, 8 IN1 (in), 9 NC, 10 GND (power), 11 GND (power), 12 NC, 13 IN2 (in), 14 BOOT2, 15 VREF (power), 16 SENSE (in), 17 ENABLE (in), 18 NC, 19 NC, 20 GND (power), EPAD 21

## LCD
designator CLCD-2*8
footprint CLCD-2*8
pins: 1 VSS (power), 2 VDD (power), 3 VO (power), 4 RS (power), 5 RW (power), 6 E (power), 7 DB0 (power), 8 DB1 (power), 9 DB2 (power), 10 DB3 (power), 11 DB4 (power), 12 DB5 (power), 13 DB6 (power), 14 DB7 (power), 15 A (power), 16 K (power)

## LED_RGB_0606
designator L?, comment IN-S66TFT5R5G5B
The IN-S66TFT5R5G5B is a tri-color 0606, 6pin / package with versatile design capabilities. It is a PCB / type molding style LED which can be used in various / applications.
footprint 0606(1616)
part A pins: 1 ANODE, 4 CATHODE
part B pins: 2 ANODE, 5 CATHODE
part C pins: 3 ANODE, 6 CATHODE

## LED_SMD
designator D?, comment LTST-C230KRKT
LED,1206,Reverse Mount,Red,60mcd Lite-On LTST-C230KRKT Red LED, 631 nm 3016 (1206), Rectangle Lens SMD package; Geometry.Height: 1.2mm; Mouser Part Number: 859-LTST-C230KRKT; Mouser Price/Stock: https://www.mouser.co.uk/ProductDetail/Lite-On/LTST-C230KRKT?qs=62Z1DqX9N4RCGhBcfl7T%2Fg%3D%3D; Manufacturer_Name: Lite-On; Manufacturer_Part_Number: LTST-C230KRKT; Datasheet Link: https://media.digikey.com/pdf/Data%20Sheets/Lite-On%20PDFs/LTST-C230KRKT.pdf
footprint LEDC3216X120N
pins: 1 K, 2 A

## LM3915
designator U?
LED, LCD, Vacuum Fluorescent (VF) Driver 18-DIP; MF: Texas Instruments; MP: LM3915; SnapEDA_Link: https://www.snapeda.com/parts/LM3915/Texas+Instruments/view-part/?ref=snap; Package: DIP-18 Texas Instruments; Value: *; Check_prices: https://www.snapeda.com/parts/LM3915/Texas+Instruments/view-part/?ref=eda
footprint DIP-18
pins: 1 LED1 (out), 2 V- (power), 3 V+ (power), 4 DIVIDER(LOW_END), 5 SIGNAL_INPUT (in), 6 DIVIDER(HIGH_END), 7 REFERENCE_OUTPUT, 8 REFERENCE_ADJUST, 9 MODE_SELECT (in), 10 LED10 (out), 11 LED9 (out), 12 LED8 (out), 13 LED7 (out), 14 LED6 (out), 15 LED5 (out), 16 LED4 (out), 17 LED3 (out), 18 LED2 (out)

## MAX7219
designator U?
Serially Interfaced, 8-Digit, LED Display Drivers; Manufacturer_Name: Analog Devices Inc; Manufacturer_Part_Number: MAX7219CWG+T; Copyright: Copyright (C) 2026 Ultra Librarian. All rights reserved.; RefDes: RefDes; Type: Type
footprint SOIC-24
footprint SOIC-24-L
part A pins: 14 SEGA, 15 SEGF, 16 SEGB, 17 SEGG, 20 SEGC, 21 SEGE, 22 SEGDP, 23 SEGD
part B pins: 2 DIG0, 3 DIG4, 5 DIG6, 6 DIG2, 7 DIG3, 8 DIG7, 10 DIG5, 11 DIG1
part C pins: 1 DIN (in), 4 GND (power), 9 GND (power), 12 LOAD (in), 13 CLK (in), 18 ISET, 19 V+ (power), 24 DOUT (out)

## MAX16052
designator U?
High-Voltage, Adjustable Sequencing/Supervisory Circuits; Mfr_Name: Analog Devices Inc; RefDes: RefDes; Type: Type
footprint SOT23-6
pins: 1 EN (power), 2 GND (power), 3 IN (power), 4 OUT (power), 5 VCC (power), 6 CDELAY (power)

## MCP1525T-I_TT
designator B?
2.5V Precision Voltage Reference; Manufacturer_Name: Microchip; Manufacturer_Part_Number: MCP1525T-I/TT; Geometry.Height: 1.12mm; Mouser Part Number: 579-MCP1525TITT; Mouser Price/Stock: https://www.mouser.co.uk/ProductDetail/Microchip-Technology/MCP1525T-I-TT?qs=fAPocZeZcjhRaHksOsIdeg%3D%3D; Datasheet Link: https://datasheet.datasheetarchive.com/originals/distributors/Datasheets-303/39535.pdf
footprint SOT-23-3N
pins: 1 VIN, 2 VOUT, 3 VSS

## MCP3208-CISL
designator U?
No Description Available; Mfr_Name: Microchip; RefDes: RefDes; Type: Type
footprint SOIC16
pins: 1 CH0 (in), 2 CH1 (in), 3 CH2 (in), 4 CH3 (in), 5 CH4 (in), 6 CH5 (in), 7 CH6 (in), 8 CH7 (in), 9 DGND (power), 10 ~{CS}/SHDN (in), 11 DIN (in), 12 DOUT (out), 13 CLK (in), 14 AGND (power), 15 VREF (in), 16 VDD (power)

## MMICT3902-00-012
designator U?
No Description Available; Mfr_Name: TDK; RefDes: RefDes; Type: Type
footprint ARRAY_902-00-012_TDK
pins: 1 DATA, 2 SELECT, 3 GND (power), 4 CLK, 5 VDD (power)

## MosfetLoad
designator J?
Mosfet With  Shunt Resistor Connector
footprint PH-4
pins: 1 Drain, 2 Gain, 3 Source, 4 LowSide

## MP1584_Module
designator U?, comment MP1584
3A,1.5MHz, 28V / Step-Down Converter
footprint MP1584_Module
pins: 1 Vin, 2 Vin, 3 GND, 4 GND, 5 Vout, 6 Vout, 7 GND, 8 GND

## MP2331HGTL-Z
designator U?
MP2331H / 24V, 2A, 1.2MHz, / Synchronous Buck Converter; Mfr_Name: Monolithic Power Systems; RefDes: RefDes; Type: Type
footprint SOT583
pins: 1 PG, 2 IN, 3 SW, 4 GND, 5 BST, 6 EN, 7 SS, 8 FB

## MP2359
designator U?
1.2A, 24V, 1.4MHz / Step-Down Converter in a TSOT23-6
footprint SOT-23-6L (SOT23, 6-Leads, Body 2.90x2.85mm, Pitch 0.95mm, IPC Medium Density)
pins: 1 BS, 2 GND, 3 FB, 4 EN, 5 IN, 6 SW

## MPM-15-15
designator B?, comment MPM-15-xx
MEAN WELL - MPM-15-15 - AC/DC PCB Mount Power Supply (PSU), Household & Medical, 1 Output, 15 W, 15 V, 1 A; Geometry.Height: 24mm; Mouser Part Number: 709-MPM-15-15; Mouser Price/Stock: https://www.mouser.co.uk/ProductDetail/MEAN-WELL/MPM-15-15?qs=wd5RIQLrsJgbuguQocLg%2FA%3D%3D; Manufacturer_Name: Mean Well; Manufacturer_Part_Number: MPM-15-15; Datasheet Link: https://www.arrow.com/en/products/mpm-15-15/mean-well-enterprises
footprint MPM-15-xx
pins: 1 AC/N, 2 AC/L, 3 V+, 4 V-

## MPU-6050
designator U?
No Description Available; Mfr_Name: InvenSense; Copyright: Copyright (C) 2023 Ultra Librarian. All rights reserved.; Manufacturer_Part_Number: MPU-6050; RefDes: RefDes; Type: DEV
footprint QFN24_M
pins: 1 CLKIN (in), 2 NC, 3 NC, 4 NC, 5 NC, 6 AUX_DA, 7 AUX_CL, 8 VLOGIC (power), 9 AD0 (in), 10 REGOUT, 11 FSYNC (in), 12 INT (out), 13 VDD (power), 14 NC, 15 NC, 16 NC, 17 NC, 18 GND (power), 20 CPOUT, 23 SCL (in), 24 SDA (io), 25 GND (power)

## NT3H2111
designator U?
footprint NT3H2111 (NTAG I2C plus: NFC Forum T2T with I2C interface, password  protection and energy harvesting)
pins: 1 LA, 2 VSS (power), 3 SCL (io), 4 FD (io), 5 SDA (io), 6 VCC (power), 7 VOUT (power), 8 LB

## PCM1808
designator U?
PCM1808 Single-Ended, Analog-Input 24-Bit, 96-kHz Stereo ADC; Mfr_Name: Texas Instruments; RefDes: RefDes; Type: Type
footprint TSSOP-14
pins: 1 VREF (power), 2 AGND (power), 3 VCC (power), 4 VDD (power), 5 DGND (power), 6 SCKI (in), 7 LRCK (io), 8 BCK (io), 9 DOUT (out), 10 MD0 (in), 11 MD1 (in), 12 FMT (in), 13 VINL (in), 14 VINR (in)

## PJ-313D
designator J?, comment AudioJack
footprint PJ313
pins: 1 GND, 2 R, 3 L

## PT2399
designator U?
Consumer Circuit, CMOS, PDIP16 ,; MF: Princeton; MP: PT2399; SnapEDA_Link: https://www.snapeda.com/parts/PT2399/Princeton+Tec/view-part/?ref=snap; Package: None; Value: *; Check_prices: https://www.snapeda.com/parts/PT2399/Princeton+Tec/view-part/?ref=eda
footprint DIP-16 (Footprint not found)
pins: 1 VCC (power), 2 REF (power), 3 AGND (power), 4 DGND (power), 5 CLK_O (out), 6 VCO (in), 7 CC1 (in), 8 CC0 (in), 9 OP1-OUT (out), 10 OP1-IN (in), 11 OP2-IN (in), 12 OP2-OUT (out), 13 LPF2-IN (in), 14 LPF2-OUT (out), 15 LPF1-OUT (out), 16 LPF1-IN (in)

## Push_Switch
designator PB?, comment PS-22F03-2P2T
footprint SWPUST_DPDT_S_7X12
pins: 1 T1, 2 COM, 3 T2, 4 T3, 5 T4, 6 T5, 7 GND, 8 GND

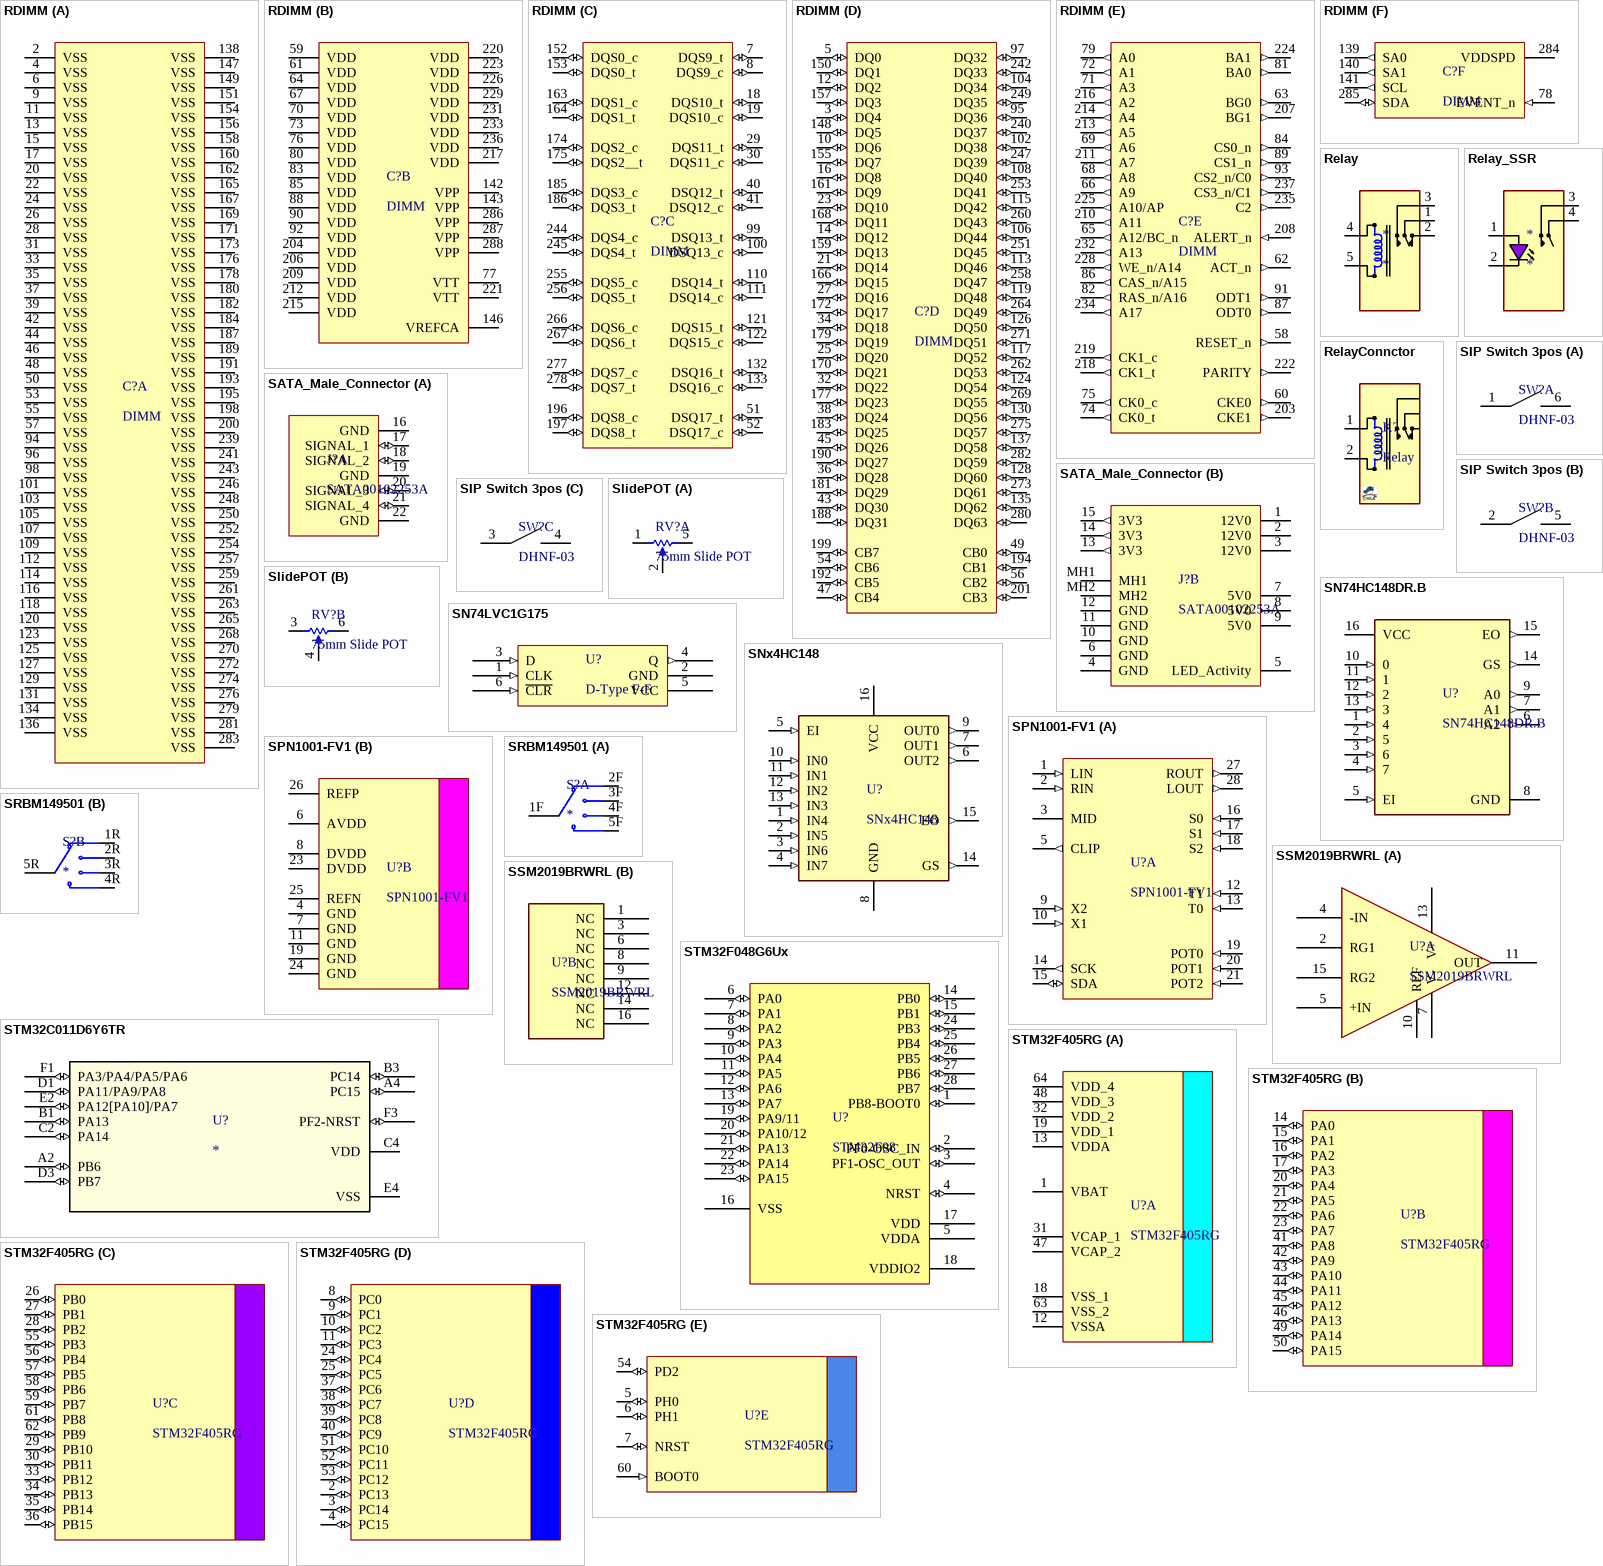
[diagram p4: symbols RDIMM to STM32F405RG]

## RDIMM
designator C?, comment DIMM
footprint RDIMM
part A pins: 2 VSS (power), 4 VSS (power), 6 VSS (power), 9 VSS (power), 11 VSS (power), 13 VSS (power), 15 VSS (power), 17 VSS (power), 20 VSS (power), 22 VSS (power), 24 VSS (power), 26 VSS (power), 28 VSS (power), 31 VSS (power), 33 VSS (power), 35 VSS (power), 37 VSS (power), 39 VSS (power), 42 VSS (power), 44 VSS (power), 46 VSS (power), 48 VSS (power), 50 VSS (power), 53 VSS (power), 55 VSS (power), 57 VSS (power), 94 VSS (power), 96 VSS (power), 98 VSS (power), 101 VSS (power), 103 VSS (power), 105 VSS (power), 107 VSS (power), 109 VSS (power), 112 VSS (power), 114 VSS (power), 116 VSS (power), 118 VSS (power), 120 VSS (power), 123 VSS (power), 125 VSS (power), 127 VSS (power), 129 VSS (power), 131 VSS (power), 134 VSS (power), 136 VSS (power), 138 VSS (power), 147 VSS (power), 149 VSS (power), 151 VSS (power), 154 VSS (power), 156 VSS (power), 158 VSS (power), 160 VSS (power), 162 VSS (power), 165 VSS (power), 167 VSS (power), 169 VSS (power), 171 VSS (power), 173 VSS (power), 176 VSS (power), 178 VSS (power), 180 VSS (power), 182 VSS (power), 184 VSS (power), 187 VSS (power), 189 VSS (power), 191 VSS (power), 193 VSS (power), 195 VSS (power), 198 VSS (power), 200 VSS (power), 239 VSS (power), 241 VSS (power), 243 VSS (power), 246 VSS (power), 248 VSS (power), 250 VSS (power), 252 VSS (power), 254 VSS (power), 257 VSS (power), 259 VSS (power), 261 VSS (power), 263 VSS (power), 265 VSS (power), 268 VSS (power), 270 VSS (power), 272 VSS (power), 274 VSS (power), 276 VSS (power), 279 VSS (power), 281 VSS (power), 283 VSS (power)
part B pins: 59 VDD (power), 61 VDD (power), 64 VDD (power), 67 VDD (power), 70 VDD (power), 73 VDD (power), 76 VDD (power), 77 VTT (power), 80 VDD (power), 83 VDD (power), 85 VDD (power), 88 VDD (power), 90 VDD (power), 92 VDD (power), 142 VPP (power), 143 VPP (power), 146 VREFCA (power), 204 VDD (power), 206 VDD (power), 209 VDD (power), 212 VDD (power), 215 VDD (power), 217 VDD (power), 220 VDD (power), 221 VTT (power), 223 VDD (power), 226 VDD (power), 229 VDD (power), 231 VDD (power), 233 VDD (power), 236 VDD (power), 286 VPP (power), 287 VPP (power), 288 VPP (power)
part C pins: 7 DQS9_t (io), 8 DQS9_c (io), 18 DQS10_t (io), 19 DQS10_c (io), 29 DQS11_t (io), 30 DQS11_c (io), 40 DSQ12_t (io), 41 DSQ12_c (io), 51 DSQ17_t (io), 52 DSQ17_c (io), 99 DSQ13_t (io), 100 DSQ13_c (io), 110 DSQ14_t (io), 111 DSQ14_c (io), 121 DQS15_t (io), 122 DQS15_c (io), 132 DSQ16_t (io), 133 DSQ16_c (io), 152 DQS0_c (io), 153 DQS0_t (io), 163 DQS1_c (io), 164 DQS1_t (io), 174 DQS2_c (io), 175 DQS2__t (io), 185 DQS3_c (io), 186 DQS3_t (io), 196 DQS8_c (io), 197 DQS8_t (io), 244 DQS4_c (io), 245 DQS4_t (io), 255 DQS5_c (io), 256 DQS5_t (io), 266 DQS6_c (io), 267 DQS6_t (io), 277 DQS7_c (io), 278 DQS7_t (io)
part D pins: 3 DQ4 (io), 5 DQ0 (io), 10 DQ6 (io), 12 DQ2 (io), 14 DQ12 (io), 16 DQ8 (io), 21 DQ14 (io), 23 DQ10 (io), 25 DQ20 (io), 27 DQ16 (io), 32 DQ22 (io), 34 DQ18 (io), 36 DQ28 (io), 38 DQ24 (io), 43 DQ30 (io), 45 DQ26 (io), 47 CB4 (io), 49 CB0 (io), 54 CB6 (io), 56 CB2 (io), 95 DQ36 (io), 97 DQ32 (io), 102 DQ38 (io), 104 DQ34 (io), 106 DQ44 (io), 108 DQ40 (io), 113 DQ46 (io), 115 DQ42 (io), 117 DQ52 (io), 119 DQ48 (io), 124 DQ54 (io), 126 DQ50 (io), 128 DQ60 (io), 130 DQ56 (io), 135 DQ62 (io), 137 DQ58 (io), 148 DQ5 (io), 150 DQ1 (io), 155 DQ7 (io), 157 DQ3 (io), 159 DQ13 (io), 161 DQ9 (io), 166 DQ15 (io), 168 DQ11 (io), 170 DQ21 (io), 172 DQ17 (io), 177 DQ23 (io), 179 DQ19 (io), 181 DQ29 (io), 183 DQ25 (io), 188 DQ31 (io), 190 DQ27 (io), 192 CB5 (io), 194 CB1 (io), 199 CB7 (io), 201 CB3 (io), 240 DQ37 (io), 242 DQ33 (io), 247 DQ39 (io), 249 DQ35 (io), 251 DQ45 (io), 253 DQ41 (io), 258 DQ47 (io), 260 DQ43 (io), 262 DQ53 (io), 264 DQ49 (io), 269 DQ55 (io), 271 DQ51 (io), 273 DQ61 (io), 275 DQ57 (io), 280 DQ63 (io), 282 DQ59 (io)
part E pins: 58 RESET_n (out), 60 CKE0 (out), 62 ACT_n (out), 63 BG0 (out), 65 A12/BC_n (out), 66 A9 (out), 68 A8 (out), 69 A6 (out), 71 A3 (out), 72 A1 (out), 74 CK0_t (out), 75 CK0_c (out), 79 A0 (out), 81 BA0 (out), 82 RAS_n/A16 (out), 84 CS0_n (out), 86 CAS_n/A15 (out), 87 ODT0 (out), 89 CS1_n (out), 91 ODT1 (out), 93 CS2_n/C0 (out), 203 CKE1 (out), 207 BG1 (out), 208 ALERT_n (in), 210 A11 (out), 211 A7 (out), 213 A5 (out), 214 A4 (out), 216 A2 (out), 218 CK1_t (out), 219 CK1_c (out), 222 PARITY (out), 224 BA1 (out), 225 A10/AP (out), 228 WE_n/A14 (out), 232 A13 (out), 234 A17 (out), 235 C2 (out), 237 CS3_n/C1 (out)
part F pins: 78 EVENT_n (in), 139 SA0 (out), 140 SA1 (out), 141 SCL (out), 284 VDDSPD (power), 285 SDA (io)

## Relay
designator *
footprint Relay
pins: 1 COM, 2 NC, 3 NO, 4 T1, 5 T2

## Relay_SSR
designator *
5A switching capability
footprint SSR
pins: 1 C+, 2 C-, 3 NO1, 4 COM1

## RelayConnctor
designator K?, comment Relay
footprint B2B-PH-K-S
pins: 1 T1, 2 T2

## SATA_Male_Connector
designator J?, comment SATA00102253A
Amphenol Information Communications and Commercial Productswww.amphenol-icc.comCONNECTORS FOR HIGH / CAPACITY STORAGE SERVERS; Supplier 1: Mouser; Supplier Part Number 1: 523-SATA00102253
footprint SATA00102253A
part A pins: 16 GND (power), 17 SIGNAL_1 (io), 18 SIGNAL_2 (io), 19 GND (power), 20 SIGNAL_3 (io), 21 SIGNAL_4 (io), 22 GND (power)
part B pins: 1 12V0, 2 12V0, 3 12V0, 4 GND (power), 5 LED_Activity, 6 GND (power), 7 5V0, 8 5V0, 9 5V0, 10 GND (power), 11 GND (power), 12 GND (power), 13 3V3 (out), 14 3V3 (out), 15 3V3 (out), MH1 (power), MH2 (power)

## SIP Switch 3pos
designator SW?, comment DHNF-03
footprint SIP-SW-03
part A pins: 1, 6
part B pins: 2, 5
part C pins: 3, 4

## SlidePOT
designator RV?, comment 75mm Slide POT
footprint SlidePOT-75
part A pins: 1 TOP, 2 Mid, 5 Bottom
part B pins: 3 TOP, 4 Mid, 6 Bottom

## SN74HC148DR.B
designator U?
8-Line To 3-Line Priority Encoders 16-SOIC -40 to 85; Manufacturer_Name: Texas Instruments; TYPE: TYPE; RefDes: RefDes; Copyright: Copyright (C) 2026 Ultra Librarian. All rights reserved.; Manufacturer_Part_Number: SN74HC148DR.B; Datasheet: https://www.ti.com/lit/gpn/sn74hc148
footprint SOIC-16 (Footprint not found)
pins: 1 4 (in), 2 5 (in), 3 6 (in), 4 7 (in), 5 EI (in), 6 A2 (out), 7 A1 (out), 8 GND (power), 9 A0 (out), 10 0 (in), 11 1 (in), 12 2 (in), 13 3 (in), 14 GS (out), 15 EO (out), 16 VCC (power)

## SN74LVC1G175
designator U?, comment D-Type F-F
SN74LVC1G175 Single D-Type Flip-Flop With Asynchronous Clear
footprint SOT-23-6L (SOT23, 6-Leads, Body 2.90x2.85mm, Pitch 0.95mm, IPC Medium Density)
pins: 1 CLK (in), 2 GND (power), 3 D (in), 4 Q (out), 5 VCC (power), 6 ~{CLR} (in)

## SNx4HC148
designator U?
8-Line to 3-Line Priority Encoders
footprint SOIC-16
pins: 1 IN4 (in), 2 IN5 (in), 3 IN6 (in), 4 IN7 (in), 5 EI (in), 6 OUT2 (out), 7 OUT1 (out), 8 GND (power), 9 OUT0 (out), 10 IN0 (in), 11 IN1 (in), 12 IN2 (in), 13 IN3 (in), 14 GS (out), 15 EO (out), 16 VCC (power)

## SPN1001-FV1
designator U?
Digital Audio Effect
footprint SOIC-28
part A pins: 1 LIN (in) "Left analog in", 2 RIN (in) "Right analog in", 3 MID "Mid reference", 5 CLIP (out) "Clip LED output", 9 X2 (in) "Crystal oscillator input", 10 X1 (in) "Crystal oscillator input", 12 T1 (in) "Tie to GND for normal operation", 13 T0 (in) "0: Use internal ROM programs, 1: Use programs from external EEPROM", 14 SCK (out) "EEPROM clock (Internal pull up)", 15 SDA (io) "EEPROM data (Internal pull up)", 16 S0 (in) "Program select LSB", 17 S1 (in) "Program select", 18 S2 (in) "Program select MSB", 19 POT0 (in) "Potentiometer 0 analog input", 20 POT1 (in) "Potentiometer 1 analog input", 21 POT2 (in) "Potentiometer 2 analog input", 27 ROUT (out) "Right analog out", 28 LOUT (out) "Left analog out"
part B pins: 4 GND (power) "Ground", 6 AVDD (power) "Analog power (3.3V)", 7 GND (power) "Ground", 8 DVDD (power) "Digital power (3.3V)", 11 GND (power) "Ground", 19 GND (power) "Ground", 23 DVDD (power) "Digital power (3.3V)", 24 GND (power) "Ground", 25 REFN "Negative reference", 26 REFP "Positive reference"

## SRBM149501
designator S?
Rotary Switches 4 Pos 0.1 Amp at 16 Volts; MF: Alps Alpine; MP: SRBM149501; SnapEDA_Link: https://www.snapeda.com/parts/SRBM149501/ALPS/view-part/?ref=snap; Package: None; Value: *; Check_prices: https://www.snapeda.com/parts/SRBM149501/ALPS/view-part/?ref=eda
footprint SW_SRBM149501
part A pins: 1F, 2F, 3F, 4F, 5F
part B pins: 1R, 2R, 3R, 4R, 5R

## SSM2019BRWRL
designator U?
No Description Available; Manufacturer_Name: Analog Devices Inc; Copyright: Copyright (C) 2026 Ultra Librarian. All rights reserved.; Manufacturer_Part_Number: SSM2019BRWRL; RefDes: RefDes; Type: Type
footprint SOIC16
part A pins: 2 RG1, 4 -IN, 5 +IN, 7 V- (power), 10 REF (power), 11 OUT, 13 V+ (power), 15 RG2
part B pins: 1 NC, 3 NC, 6 NC, 8 NC, 9 NC, 12 NC, 14 NC, 16 NC

## STM32C011D6Y6TR
designator U?
No Description Available; Mfr_Name: STMicroelectronics; RefDes: RefDes; Type: Type
footprint wlcsp12 (12-ball 1.555*1.403mm Body, 0.538 mm think, 0.40 mm pitch (4*6 Stanggered Array) WLCSP)
pins: A2 PB6 (io), A4 PC15 (io), B1 PA13 (io), B3 PC14 (io), C2 PA14 (io), C4 VDD (power), D1 PA11/PA9/PA8 (io), D3 PB7 (io), E2 PA12[PA10]/PA7 (io), E4 VSS (power), F1 PA3/PA4/PA5/PA6 (io), F3 PF2-NRST (io)

## STM32F048G6Ux
designator U?, comment STM32F08
ARM ® -based 32-bit MCU, 32 KB Flash, crystal-less USB FS 2.0, / 9 timers, ADC and comm. interfaces, 1.8 V
footprint UFQFPN28
footprint UFQFPN28_L
footprint UFQFPN28_M
pins: 1 PB8-BOOT0 (io), 2 PF0-OSC_IN (io), 3 PF1-OSC_OUT (io), 4 NRST (io), 5 VDDA (power), 6 PA0 (io), 7 PA1 (io), 8 PA2 (io), 9 PA3 (io), 10 PA4 (io), 11 PA5 (io), 12 PA6 (io), 13 PA7 (io), 14 PB0 (io), 15 PB1 (io), 16 VSS (power), 17 VDD (power), 18 VDDIO2 (power), 19 PA9/11 (io), 20 PA10/12 (io), 21 PA13 (io), 22 PA14 (io), 23 PA15 (io), 24 PB3 (io), 25 PB4 (io), 26 PB5 (io), 27 PB6 (io), 28 PB7 (io)

## STM32F405RG
designator U?
footprint LQFP-64
part A pins: 1 VBAT (power), 12 VSSA (power), 13 VDDA (power), 18 VSS_1 (power), 19 VDD_1 (power), 31 VCAP_1 (power), 32 VDD_2 (power), 47 VCAP_2 (power), 48 VDD_3 (power), 63 VSS_2 (power), 64 VDD_4 (power)
part B pins: 14 PA0 (io), 15 PA1 (io), 16 PA2 (io), 17 PA3 (io), 20 PA4 (io), 21 PA5 (io), 22 PA6 (io), 23 PA7 (io), 41 PA8 (io), 42 PA9 (io), 43 PA10 (io), 44 PA11 (io), 45 PA12 (io), 46 PA13 (io), 49 PA14 (io), 50 PA15 (io)
part C pins: 26 PB0 (io), 27 PB1 (io), 28 PB2 (io), 29 PB10 (io), 30 PB11 (io), 33 PB12 (io), 34 PB13 (io), 35 PB14 (io), 36 PB15 (io), 55 PB3 (io), 56 PB4 (io), 57 PB5 (io), 58 PB6 (io), 59 PB7 (io), 61 PB8 (io), 62 PB9 (io)
part D pins: 2 PC13 (io), 3 PC14 (io), 4 PC15 (io), 8 PC0 (io), 9 PC1 (io), 10 PC2 (io), 11 PC3 (io), 24 PC4 (io), 25 PC5 (io), 37 PC6 (io), 38 PC7 (io), 39 PC8 (io), 40 PC9 (io), 51 PC10 (io), 52 PC11 (io), 53 PC12 (io)
part E pins: 5 PH0 (io), 6 PH1 (io), 7 NRST (io), 54 PD2 (io), 60 BOOT0 (in)

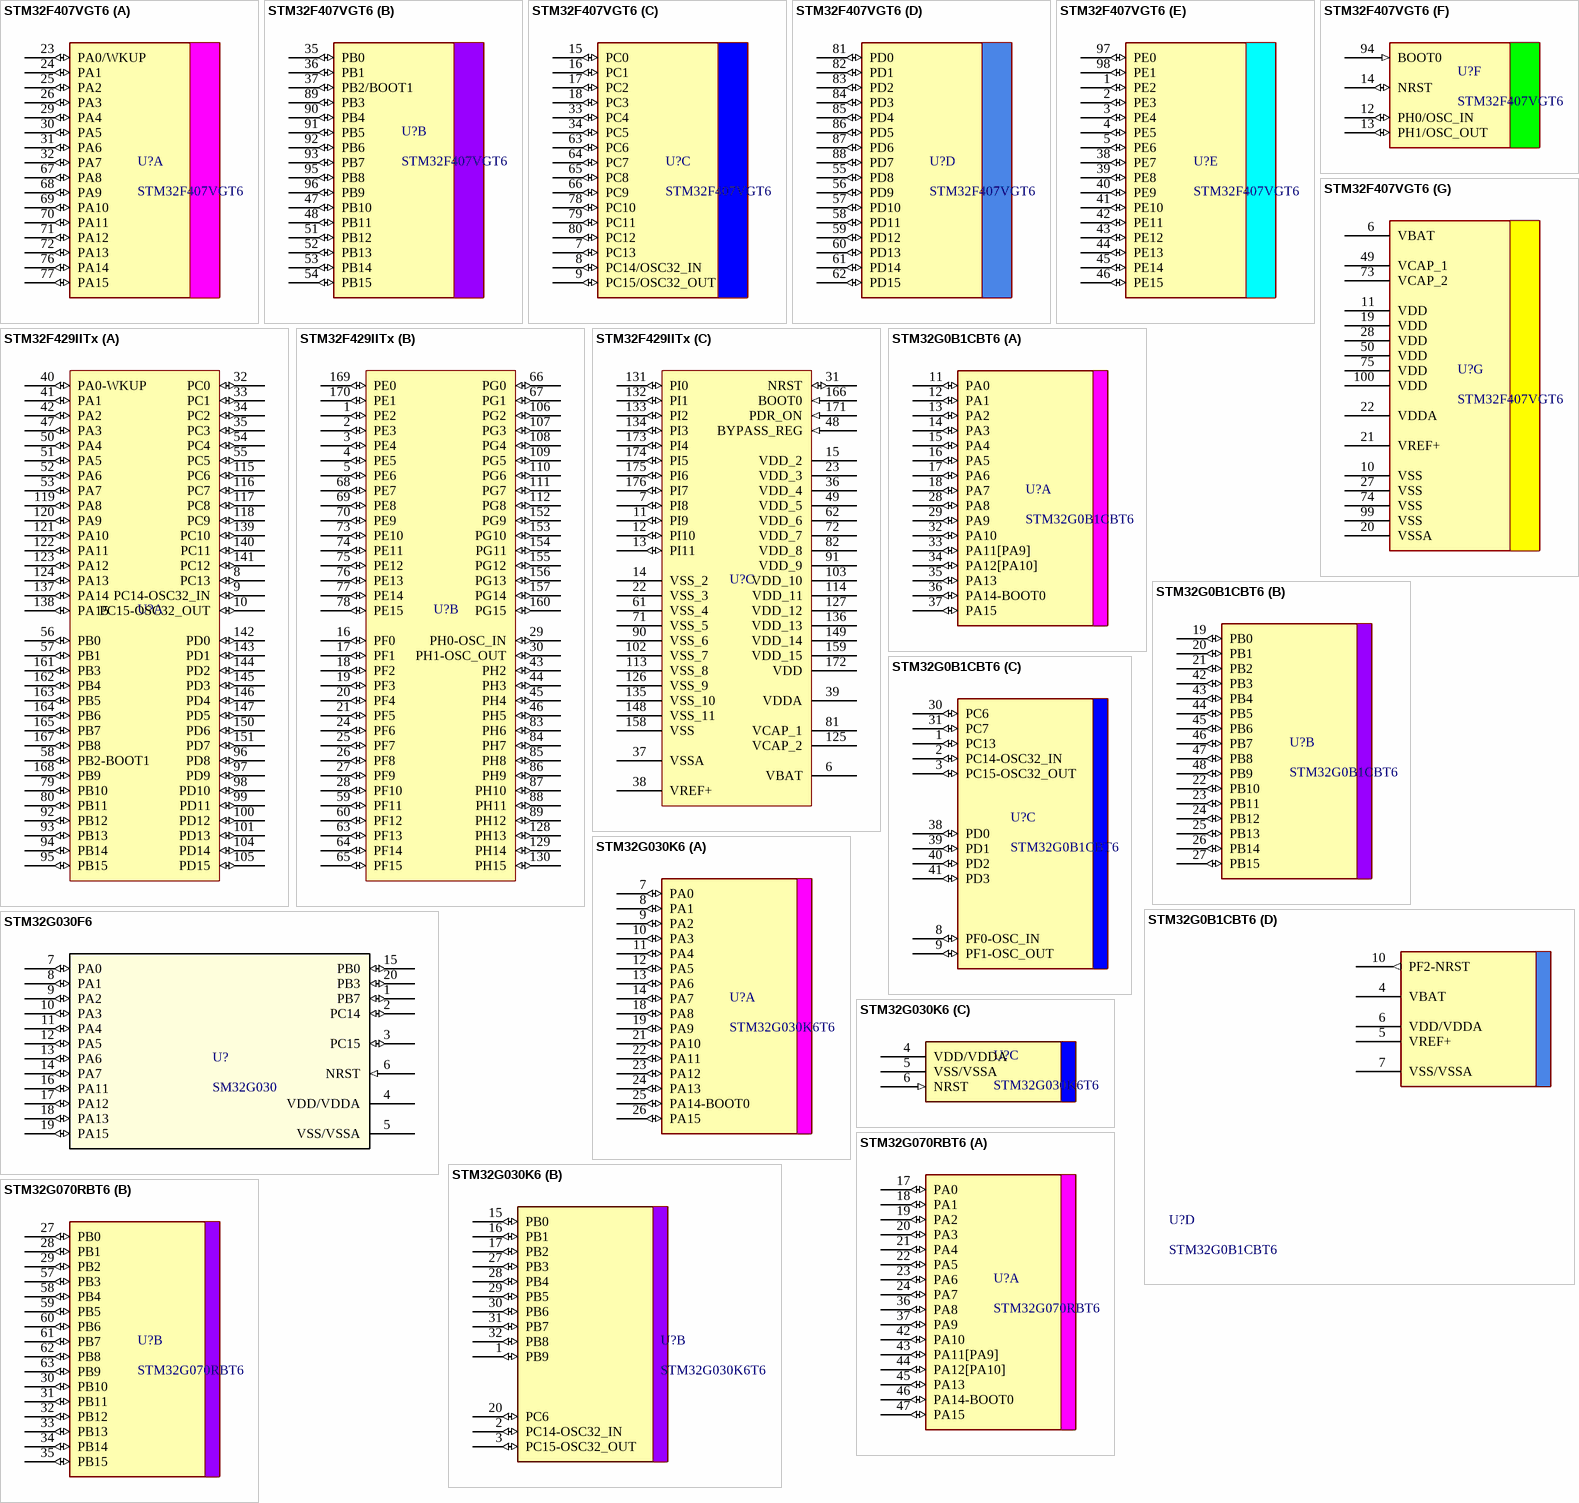
[diagram p5: symbols STM32F407VGT6 to STM32G070RBT6]